# Altium schematic symbol library dungvh03-CERN_AnalogInterface.SchLib: 1053 symbols (part 3 of 12)
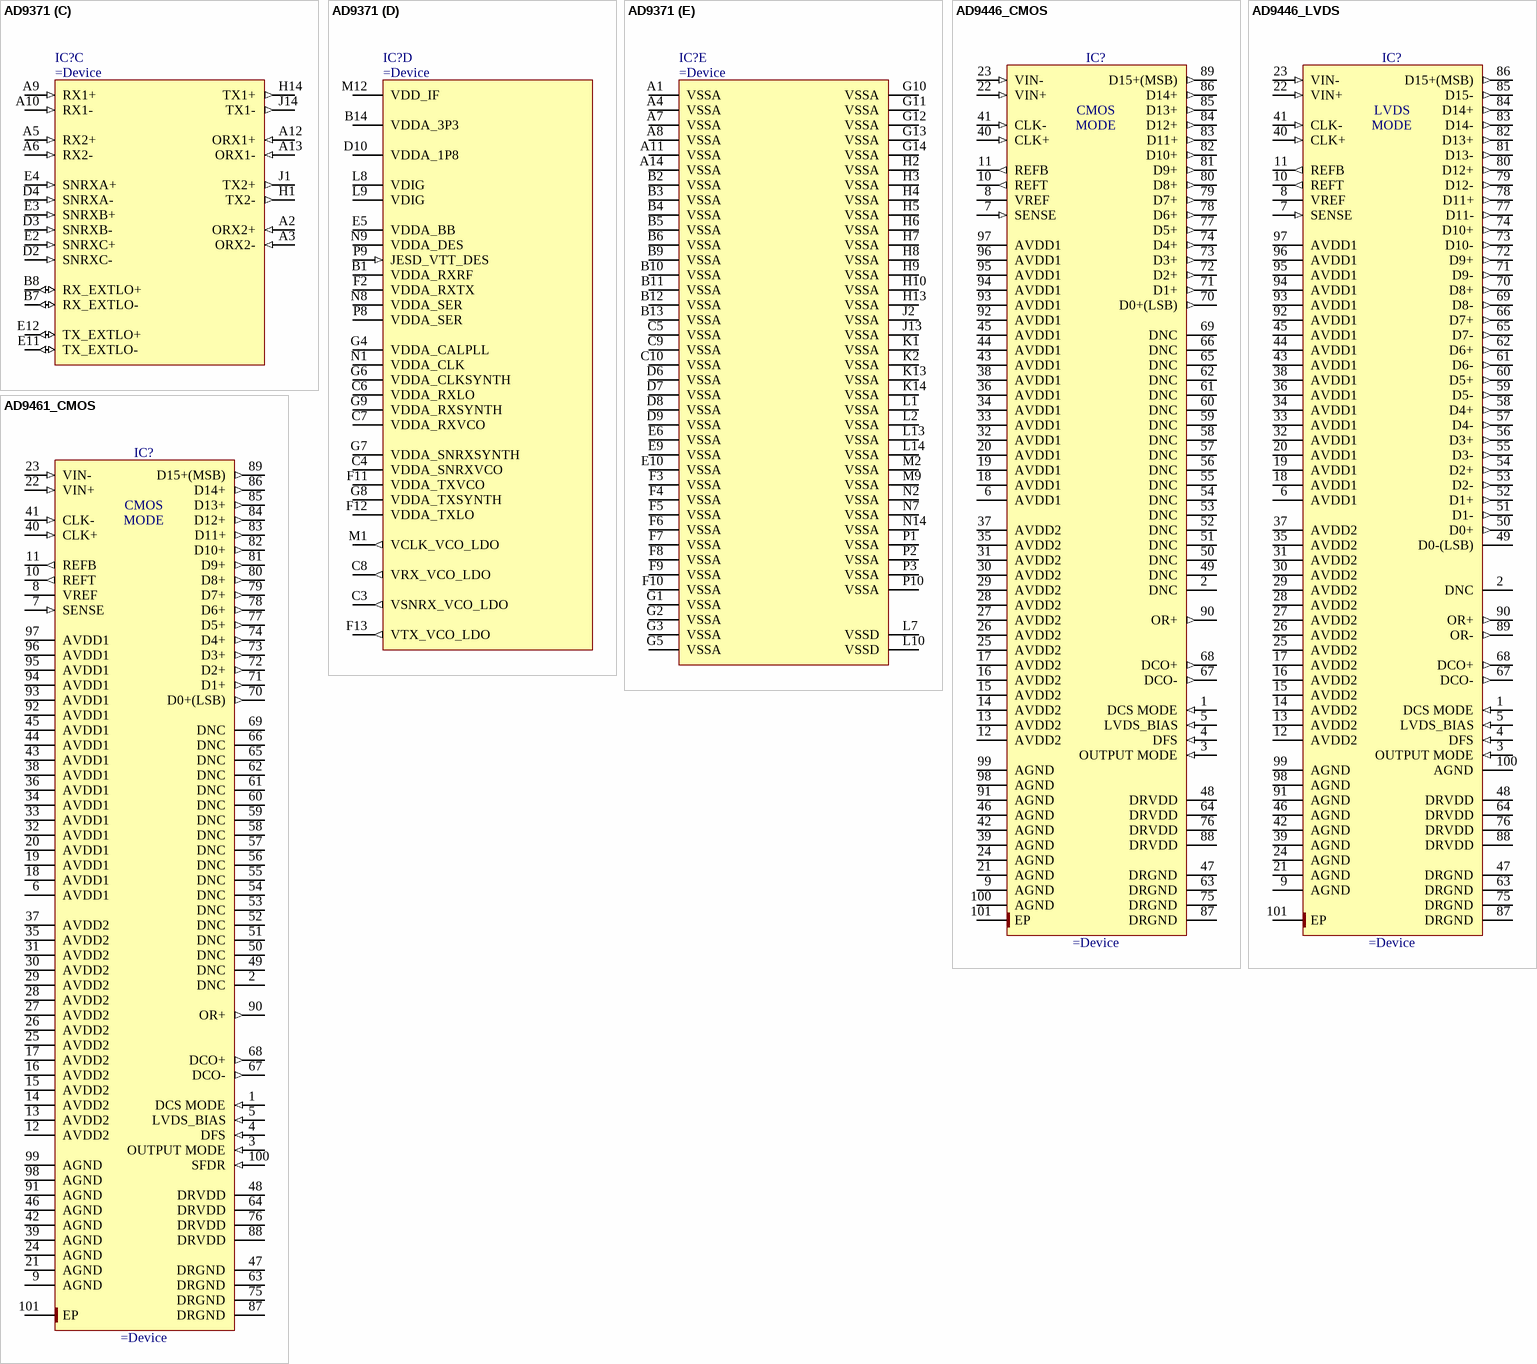
[diagram p69: symbols AD9371 to AD9461_CMOS]

## AD9446_LVDS
designator IC?
16-Bit, 80/100 MSPS ADC (LVDS Mode)
pins: 1 DCS MODE (in), 2 DNC, 3 OUTPUT MODE (in), 4 DFS (in), 5 LVDS_BIAS (in), 6 AVDD1 (power), 7 SENSE (in), 8 VREF, 9 AGND (power), 10 REFT (out), 11 REFB (out), 12 AVDD2 (power), 13 AVDD2 (power), 14 AVDD2 (power), 15 AVDD2 (power), 16 AVDD2 (power), 17 AVDD2 (power), 18 AVDD1 (power), 19 AVDD1 (power), 20 AVDD1 (power), 21 AGND (power), 22 VIN+ (in), 23 VIN- (in), 24 AGND (power), 25 AVDD2 (power), 26 AVDD2 (power), 27 AVDD2 (power), 28 AVDD2 (power), 29 AVDD2 (power), 30 AVDD2 (power), 31 AVDD2 (power), 32 AVDD1 (power), 33 AVDD1 (power), 34 AVDD1 (power), 35 AVDD2 (power), 36 AVDD1 (power), 37 AVDD2 (power), 38 AVDD1 (power), 39 AGND (power), 40 CLK+ (in), 41 CLK- (in), 42 AGND (power), 43 AVDD1 (power), 44 AVDD1 (power), 45 AVDD1 (power), 46 AGND (power), 47 DRGND (power), 48 DRVDD (power), 49 D0-(LSB) (power), 50 D0+ (out), 51 D1- (out), 52 D1+ (out), 53 D2- (out), 54 D2+ (out), 55 D3- (out), 56 D3+ (out), 57 D4- (out), 58 D4+ (out), 59 D5- (out), 60 D5+ (out), 61 D6- (out), 62 D6+ (out), 63 DRGND (power), 64 DRVDD (power), 65 D7- (out), 66 D7+ (out), 67 DCO- (out), 68 DCO+ (out), 69 D8- (out), 70 D8+ (out), 71 D9- (out), 72 D9+ (out), 73 D10- (out), 74 D10+ (out), 75 DRGND (power), 76 DRVDD (power), 77 D11- (out), 78 D11+ (out), 79 D12- (out), 80 D12+ (out), 81 D13- (out), 82 D13+ (out), 83 D14- (out), 84 D14+ (out), 85 D15- (out), 86 D15+(MSB) (out), 87 DRGND (power), 88 DRVDD (power), 89 OR- (out), 90 OR+ (out), 91 AGND (power), 92 AVDD1 (power), 93 AVDD1 (power), 94 AVDD1 (power), 95 AVDD1 (power), 96 AVDD1 (power), 97 AVDD1 (power), 98 AGND (power), 99 AGND (power), 100 AGND (power), 101 EP (power)
text: LVDS; MODE

## AD9461_CMOS
designator IC?
16-Bit, 130 MSPS IF Sampling ADC (CMOS Mode)
pins: 1 DCS MODE (in), 2 DNC, 3 OUTPUT MODE (in), 4 DFS (in), 5 LVDS_BIAS (in), 6 AVDD1 (power), 7 SENSE (in), 8 VREF, 9 AGND (power), 10 REFT (out), 11 REFB (out), 12 AVDD2 (power), 13 AVDD2 (power), 14 AVDD2 (power), 15 AVDD2 (power), 16 AVDD2 (power), 17 AVDD2 (power), 18 AVDD1 (power), 19 AVDD1 (power), 20 AVDD1 (power), 21 AGND (power), 22 VIN+ (in), 23 VIN- (in), 24 AGND (power), 25 AVDD2 (power), 26 AVDD2 (power), 27 AVDD2 (power), 28 AVDD2 (power), 29 AVDD2 (power), 30 AVDD2 (power), 31 AVDD2 (power), 32 AVDD1 (power), 33 AVDD1 (power), 34 AVDD1 (power), 35 AVDD2 (power), 36 AVDD1 (power), 37 AVDD2 (power), 38 AVDD1 (power), 39 AGND (power), 40 CLK+ (in), 41 CLK- (in), 42 AGND (power), 43 AVDD1 (power), 44 AVDD1 (power), 45 AVDD1 (power), 46 AGND (power), 47 DRGND (power), 48 DRVDD (power), 49 DNC, 50 DNC, 51 DNC, 52 DNC, 53 DNC, 54 DNC, 55 DNC, 56 DNC, 57 DNC, 58 DNC, 59 DNC, 60 DNC, 61 DNC, 62 DNC, 63 DRGND (power), 64 DRVDD (power), 65 DNC, 66 DNC, 67 DCO- (out), 68 DCO+ (out), 69 DNC, 70 D0+(LSB) (out), 71 D1+ (out), 72 D2+ (out), 73 D3+ (out), 74 D4+ (out), 75 DRGND (power), 76 DRVDD (power), 77 D5+ (out), 78 D6+ (out), 79 D7+ (out), 80 D8+ (out), 81 D9+ (out), 82 D10+ (out), 83 D11+ (out), 84 D12+ (out), 85 D13+ (out), 86 D14+ (out), 87 DRGND (power), 88 DRVDD (power), 89 D15+(MSB) (out), 90 OR+ (out), 91 AGND (power), 92 AVDD1 (power), 93 AVDD1 (power), 94 AVDD1 (power), 95 AVDD1 (power), 96 AVDD1 (power), 97 AVDD1 (power), 98 AGND (power), 99 AGND (power), 100 SFDR (in), 101 EP (power)
text: CMOS; MODE

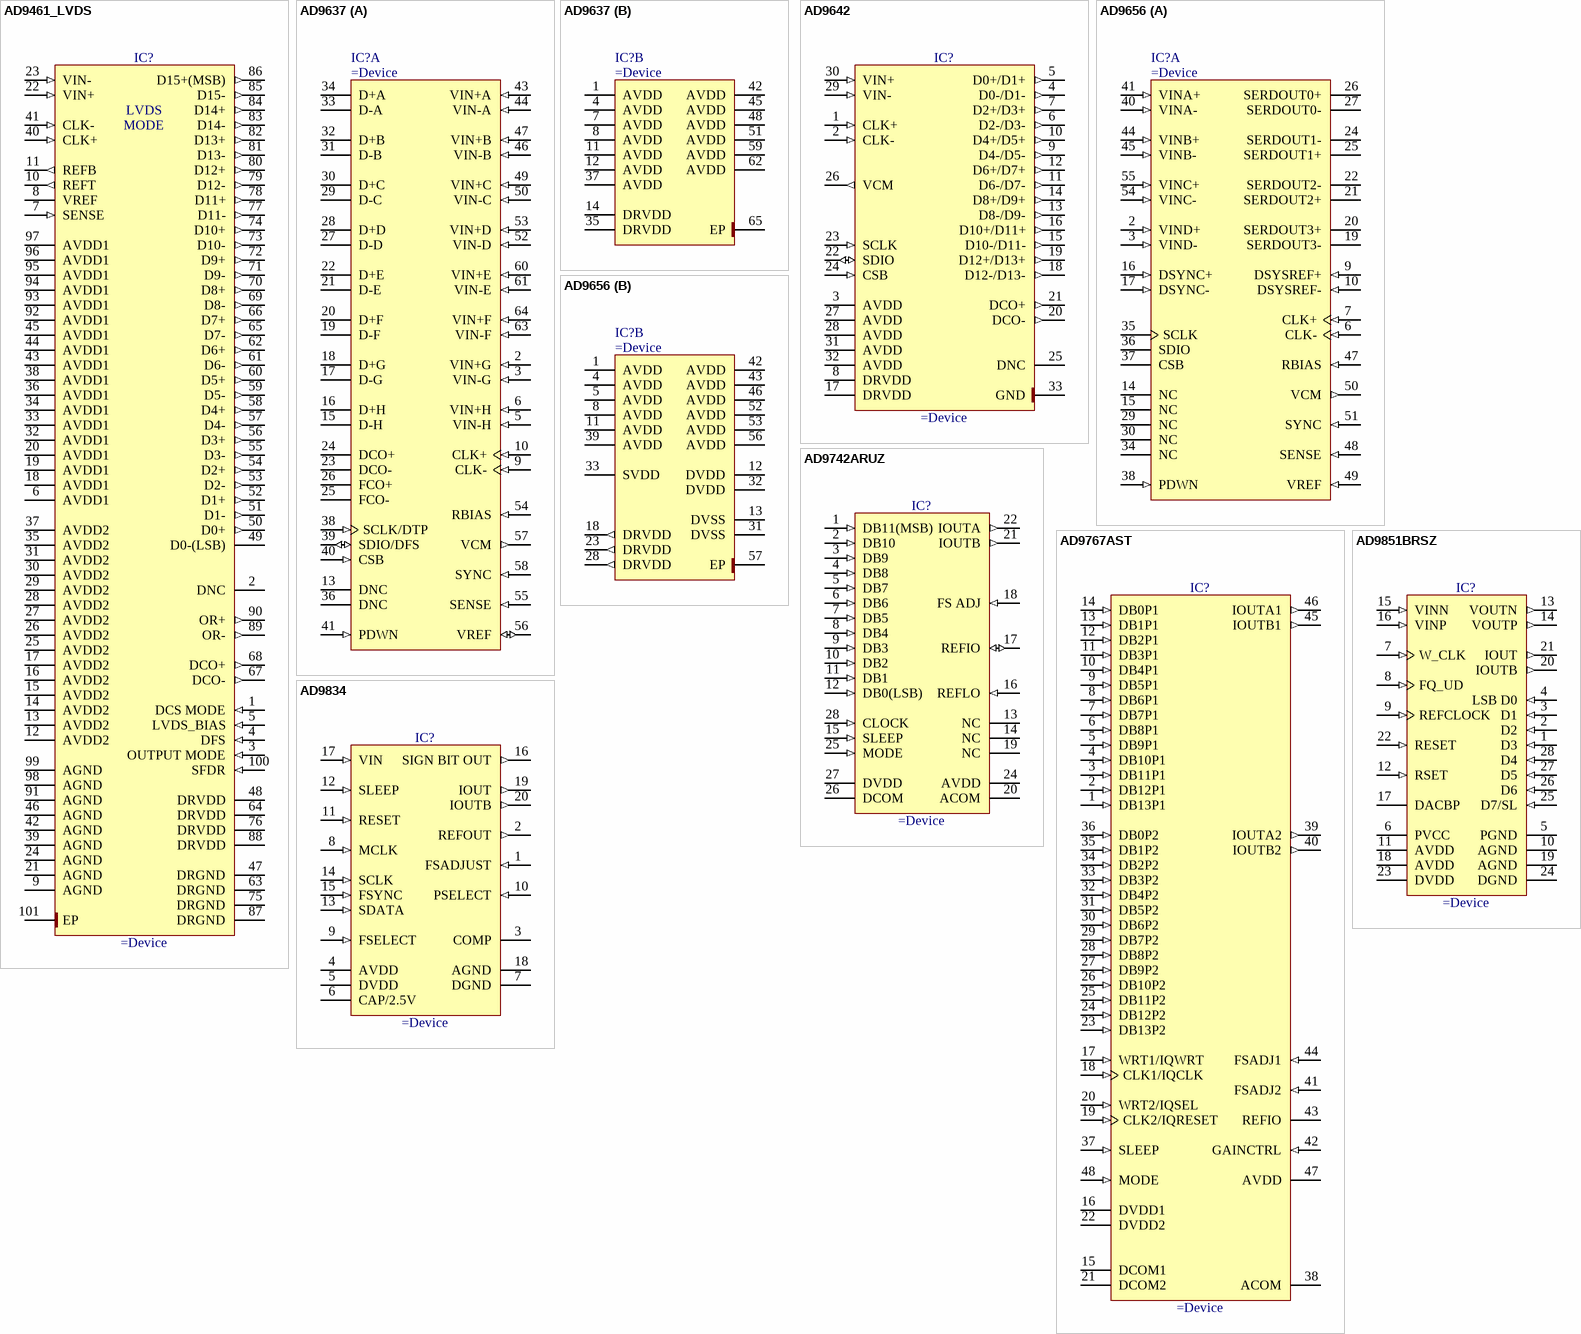
[diagram p10: symbols AD9461_LVDS to AD9851BRSZ]

## AD9461_LVDS
designator IC?
16-Bit, 130 MSPS IF Sampling ADC (LVDS Mode)
pins: 1 DCS MODE (in), 2 DNC, 3 OUTPUT MODE (in), 4 DFS (in), 5 LVDS_BIAS (in), 6 AVDD1 (power), 7 SENSE (in), 8 VREF, 9 AGND (power), 10 REFT (out), 11 REFB (out), 12 AVDD2 (power), 13 AVDD2 (power), 14 AVDD2 (power), 15 AVDD2 (power), 16 AVDD2 (power), 17 AVDD2 (power), 18 AVDD1 (power), 19 AVDD1 (power), 20 AVDD1 (power), 21 AGND (power), 22 VIN+ (in), 23 VIN- (in), 24 AGND (power), 25 AVDD2 (power), 26 AVDD2 (power), 27 AVDD2 (power), 28 AVDD2 (power), 29 AVDD2 (power), 30 AVDD2 (power), 31 AVDD2 (power), 32 AVDD1 (power), 33 AVDD1 (power), 34 AVDD1 (power), 35 AVDD2 (power), 36 AVDD1 (power), 37 AVDD2 (power), 38 AVDD1 (power), 39 AGND (power), 40 CLK+ (in), 41 CLK- (in), 42 AGND (power), 43 AVDD1 (power), 44 AVDD1 (power), 45 AVDD1 (power), 46 AGND (power), 47 DRGND (power), 48 DRVDD (power), 49 D0-(LSB) (power), 50 D0+ (out), 51 D1- (out), 52 D1+ (out), 53 D2- (out), 54 D2+ (out), 55 D3- (out), 56 D3+ (out), 57 D4- (out), 58 D4+ (out), 59 D5- (out), 60 D5+ (out), 61 D6- (out), 62 D6+ (out), 63 DRGND (power), 64 DRVDD (power), 65 D7- (out), 66 D7+ (out), 67 DCO- (out), 68 DCO+ (out), 69 D8- (out), 70 D8+ (out), 71 D9- (out), 72 D9+ (out), 73 D10- (out), 74 D10+ (out), 75 DRGND (power), 76 DRVDD (power), 77 D11- (out), 78 D11+ (out), 79 D12- (out), 80 D12+ (out), 81 D13- (out), 82 D13+ (out), 83 D14- (out), 84 D14+ (out), 85 D15- (out), 86 D15+(MSB) (out), 87 DRGND (power), 88 DRVDD (power), 89 OR- (out), 90 OR+ (out), 91 AGND (power), 92 AVDD1 (power), 93 AVDD1 (power), 94 AVDD1 (power), 95 AVDD1 (power), 96 AVDD1 (power), 97 AVDD1 (power), 98 AGND (power), 99 AGND (power), 100 SFDR (in), 101 EP (power)
text: LVDS; MODE

## AD9637
designator IC?
Octal, 12-Bit, 40/80MSPS, Serial LVDS, 1.8V Analog-to-Digital Converter
part A pins: 2 VIN+G (in) "ADC G Analog Input True.", 3 VIN-G (in) "ADC G Analog Input Complement.", 5 VIN-H (in) "ADC H Analog Input Complement.", 6 VIN+H (in) "ADC H Analog Input True.", 9 CLK- (in) "Input Clock Complement.", 10 CLK+ (in) "Input Clock True.", 13 DNC "Do Not Connect. Do not connect to this pin.", 15 D-H (hiz) "ADC H Digital Output Complement.", 16 D+H (hiz) "ADC H Digital Output True.", 17 D-G (hiz) "ADC G Digital Output Complement.", 18 D+G (hiz) "ADC G Digital Output True.", 19 D-F (hiz) "ADC F Digital Output Complement.", 20 D+F (hiz) "ADC F Digital Output True.", 21 D-E (hiz) "ADC E Digital Output Complement.", 22 D+E (hiz) "ADC E Digital Output True.", 23 DCO- (hiz) "Data Clock Digital Output Complement.", 24 DCO+ (hiz) "Data Clock Digital Output True.", 25 FCO- (hiz) "Frame Clock Digital Output Complement.", 26 FCO+ (hiz) "Frame Clock Digital Output True.", 27 D-D (hiz) "ADC D Digital Output Complement.", 28 D+D (hiz) "ADC D Digital Output True.", 29 D-C (hiz) "ADC C Digital Output Complement.", 30 D+C (hiz) "ADC C Digital Output True.", 31 D-B (hiz) "ADC B Digital Output Complement.", 32 D+B (hiz) "ADC B Digital Output True.", 33 D-A (hiz) "ADC A Digital Output Complement.", 34 D+A (hiz) "ADC A Digital Output True.", 36 DNC "Do Not Connect. Do not connect to this pin.", 38 SCLK/DTP (in) "Serial Clock (SCLK)/Digital Test Pattern (DTP).", 39 SDIO/DFS (io) "Serial Data Input/Output (SDIO)/Data Format Select (DFS).", 40 CSB (in) "Chip Select Bar.", 41 PDWN (in) "Power-Down.", 43 VIN+A (in) "ADC A Analog Input True.", 44 VIN-A (in) "ADC A Analog Input Complement.", 46 VIN-B (in) "ADC B Analog Input Complement.", 47 VIN+B (in) "ADC B Analog Input True.", 49 VIN+C (in) "ADC C Analog Input True.", 50 VIN-C (in) "ADC C Analog Input Complement.", 52 VIN-D (in) "ADC D Analog Input Complement.", 53 VIN+D (in) "ADC D Analog Input True.", 54 RBIAS (in) "Sets analog current bias. Connect to 10 kO (1% tolerance) resistor to ground.", 55 SENSE (in) "Reference Mode Selection.", 56 VREF (io) "Voltage Reference Input/Output.", 57 VCM (out) "Analog Output Voltage at Midsupply. Sets common mode of the analog inputs.", 58 SYNC (in) "Digital Input. SYNC input to clock divider. 30 kO internal pull-down.", 60 VIN+E (in) "ADC E Analog Input True.", 61 VIN-E (in) "ADC E Analog Input Complement.", 63 VIN-F (in) "ADC F Analog Input Complement.", 64 VIN+F (in) "ADC F Analog Input True."
part B pins: 1 AVDD (power) "1.8 V Analog Supply.", 4 AVDD (power) "1.8 V Analog Supply.", 7 AVDD (power) "1.8 V Analog Supply.", 8 AVDD (power) "1.8 V Analog Supply.", 11 AVDD (power) "1.8 V Analog Supply.", 12 AVDD (power) "1.8 V Analog Supply.", 14 DRVDD (power) "1.8 V Digital Output Driver Supply.", 35 DRVDD (power) "1.8 V Digital Output Driver Supply.", 37 AVDD (power) "1.8 V Analog Supply.", 42 AVDD (power) "1.8 V Analog Supply.", 45 AVDD (power) "1.8 V Analog Supply.", 48 AVDD (power) "1.8 V Analog Supply.", 51 AVDD (power) "1.8 V Analog Supply.", 59 AVDD (power) "1.8 V Analog Supply.", 62 AVDD (power) "1.8 V Analog Supply.", 65 EP (power) "Analog Ground, Exposed Pad. The exposed thermal pad on the bottom of the package provides the analog ground for the part. This exposed pad must be connected to analog ground for proper operation."

## AD9642
designator IC?
Single, 14-Bit, 170/210/250 MSPS, LVDS Interface, 1.8 V Analog-to-Digital Converter
pins: 1 CLK+ (in), 2 CLK- (in), 3 AVDD (power), 4 D0-/D1- (out), 5 D0+/D1+ (out), 6 D2-/D3- (out), 7 D2+/D3+ (out), 8 DRVDD (power), 9 D4-/D5- (out), 10 D4+/D5+ (out), 11 D6-/D7- (out), 12 D6+/D7+ (out), 13 D8-/D9- (out), 14 D8+/D9+ (out), 15 D10-/D11- (out), 16 D10+/D11+ (out), 17 DRVDD (power), 18 D12-/D13- (out), 19 D12+/D13+ (out), 20 DCO- (out), 21 DCO+ (out), 22 SDIO (io), 23 SCLK (in), 24 CSB (in), 25 DNC, 26 VCM (out), 27 AVDD (power), 28 AVDD (power), 29 VIN- (in), 30 VIN+ (in), 31 AVDD (power), 32 AVDD (power), 33 GND (power)

## AD9656
designator IC?
Quad, 16-Bit, 125 MSPS, JESD204B, 1.8V Analog-to-Digital Converter
part A pins: 2 VIND+ (in), 3 VIND- (in), 6 CLK- (in), 7 CLK+ (in), 9 DSYSREF+ (in), 10 DSYSREF- (in), 14 NC (power), 15 NC (hiz), 16 DSYNC+ (in), 17 DSYNC- (in), 19 SERDOUT3- (hiz), 20 SERDOUT3+ (hiz), 21 SERDOUT2+ (hiz), 22 SERDOUT2- (hiz), 24 SERDOUT1- (hiz), 25 SERDOUT1+ (hiz), 26 SERDOUT0+ (hiz), 27 SERDOUT0- (hiz), 29 NC (hiz), 30 NC (hiz), 34 NC (hiz), 35 SCLK (power), 36 SDIO, 37 CSB (power), 38 PDWN (in), 40 VINA- (in), 41 VINA+ (in), 44 VINB+ (in), 45 VINB- (in), 47 RBIAS (in), 48 SENSE (in), 49 VREF (in), 50 VCM (out), 51 SYNC (in), 54 VINC- (in), 55 VINC+ (in)
part B pins: 1 AVDD (power), 4 AVDD (power), 5 AVDD (power), 8 AVDD (power), 11 AVDD (power), 12 DVDD (power), 13 DVSS, 18 DRVDD (out), 23 DRVDD (out), 28 DRVDD (out), 31 DVSS (hiz), 32 DVDD (hiz), 33 SVDD (hiz), 39 AVDD (power), 42 AVDD (power), 43 AVDD (power), 46 AVDD (power), 52 AVDD (power), 53 AVDD (power), 56 AVDD (power), 57 EP (power)

## AD9742ARUZ
designator IC?
12-Bit, 210 MSPS TxDAC® D/A Converter
pins: 1 DB11(MSB) (in), 2 DB10 (in), 3 DB9 (in), 4 DB8 (in), 5 DB7 (in), 6 DB6 (in), 7 DB5 (in), 8 DB4 (in), 9 DB3 (in), 10 DB2 (in), 11 DB1 (in), 12 DB0(LSB) (in), 13 NC, 14 NC, 15 SLEEP (in), 16 REFLO (in), 17 REFIO (io), 18 FS ADJ (in), 19 NC, 20 ACOM (power), 21 IOUTB (out), 22 IOUTA (out), 24 AVDD (power), 25 MODE (in), 26 DCOM (power), 27 DVDD (power), 28 CLOCK (in)

## AD9767AST
designator IC?
Dual 14-Bit, 125 MSPS Dual TxDAC+ Digital-to-Analog Converter
pins: 1 DB13P1 (in) "Data Bit Pin (Port 1)", 2 DB12P1 (in) "Data Bit Pin (Port 1)", 3 DB11P1 (in) "Data Bit Pin (Port 1)", 4 DB10P1 (in) "Data Bit Pin (Port 1)", 5 DB9P1 (in) "Data Bit Pin (Port 1)", 6 DB8P1 (in) "Data Bit Pin (Port 1)", 7 DB7P1 (in) "Data Bit Pin (Port 1)", 8 DB6P1 (in) "Data Bit Pin (Port 1)", 9 DB5P1 (in) "Data Bit Pin (Port 1)", 10 DB4P1 (in) "Data Bit Pin (Port 1)", 11 DB3P1 (in) "Data Bit Pin (Port 1)", 12 DB2P1 (in) "Data Bit Pin (Port 1)", 13 DB1P1 (in) "Data Bit Pin (Port 1)", 14 DB0P1 (in) "Data Bit Pin (Port 1)", 15 DCOM1 (power) "Digital Common", 16 DVDD1 (power) "Digital Supply Voltage", 17 WRT1/IQWRT (in) "Input Write Signal for PORT 1 (IQWRT in Interleaving Mode)", 18 CLK1/IQCLK (in) "Clock Input for DAC1 (IQCLK in Interleaving Mode)", 19 CLK2/IQRESET (in) "Clock Input for DAC2 (IQRESET in Interleaving Mode)", 20 WRT2/IQSEL (in) "Input Write Signal for PORT 2 (IQSEL in Interleaving Mode)", 21 DCOM2 (power) "Digital Common", 22 DVDD2 (power) "Digital Supply Voltage", 23 DB13P2 (in) "Data Bit Pin (Port 2)", 24 DB12P2 (in) "Data Bit Pin (Port 2)", 25 DB11P2 (in) "Data Bit Pin (Port 2)", 26 DB10P2 (in) "Data Bit Pin (Port 2)", 27 DB9P2 (in) "Data Bit Pin (Port 2)", 28 DB8P2 (in) "Data Bit Pin (Port 2)", 29 DB7P2 (in) "Data Bit Pin (Port 2)", 30 DB6P2 (in) "Data Bit Pin (Port 2)", 31 DB5P2 (in) "Data Bit Pin (Port 2)", 32 DB4P2 (in) "Data Bit Pin (Port 2)", 33 DB3P2 (in) "Data Bit Pin (Port 2)", 34 DB2P2 (in) "Data Bit Pin (Port 2)", 35 DB1P2 (in) "Data Bit Pin (Port 2)", 36 DB0P2 (in) "Data Bit Pin (Port 2)", 37 SLEEP (in) "Power-Down Control Input", 38 ACOM (power) "Analog Common", 39 IOUTA2 (out) "Port 2 Differential DAC Current Output", 40 IOUTB2 (out) "Port 2 Differential DAC Current Output", 41 FSADJ2 (in) "Full-Scale Current Output Adjust for DAC2", 42 GAINCTRL (in) "Master/Slave Resistor Control Mode", 43 REFIO "Reference Input/Output", 44 FSADJ1 (in) "Full-Scale Current Output Adjust for DAC1", 45 IOUTB1 (out) "Port 1 Differential DAC Current Output", 46 IOUTA1 (out) "Port 1 Differential DAC Current Output", 47 AVDD (power) "Analog Supply Voltage", 48 MODE (in) "Mode Select (1 = dual port, 0 = interleaved)"

## AD9834
designator IC?
20mW Power, 2.3V to 5.5V, 75MHz Complete DDS
pins: 1 FSADJUST (in) "Full-Scale Adjust Control. A resistor (RSET) is connected between this pin and AGND. This determines the magnitude of the full-scale DAC current. [see datasheet]", 2 REFOUT (out) "Voltage Reference Output. The AD9834 has an internal 1.20 V reference that is made available at this pin.", 3 COMP "DAC Bias Pin. This pin is used for decoupling the DAC bias voltage.", 4 AVDD (power) "Positive Power Supply for the Analog Section. AVDD can have a value from 2.3 V to 5.5 V. A 0.1 uF decoupling capacitor should be connected between AVDD and AGND.", 5 DVDD (power) "Positive Power Supply for the Digital Section. DVDD can have a value from 2.3 V to 5.5 V. A 0.1 uF decoupling capacitor should be connected between DVDD and DGND.", 6 CAP/2.5V (power) "The digital circuitry operates from a 2.5 V power supply. This 2.5 V is generated from DVDD using an on-board regulator (when DVDD exceeds 2.7 V). [see datasheet]", 7 DGND (power) "Digital Ground.", 8 MCLK (in) "Digital Clock Input. DDS output frequencies are expressed as a binary fraction of the frequency of MCLK. The output frequency accuracy and phase noise are determined by this clock.", 9 FSELECT (in) "Frequency Select Input. FSELECT controls which frequency register, FREQ0 or FREQ1, is used in the phase accumulator. The frequency register to be used can be selected using Pin FSELECT or Bit FSEL. [see datasheet]", 10 PSELECT (in) "Phase Select Input. PSELECT controls which phase register, PHASE0 or PHASE1, is added to the phase accumulator output. The phase register to be used can be selected using Pin PSELECT or Bit PSEL. [see datasheet]", 11 RESET (in) "Active High Digital Input. RESET resets appropriate internal registers to zero; this corresponds to an analog output of midscale. RESET does not affect any of the addressable registers.", 12 SLEEP (in) "Active High Digital Input. When this pin is high, the DAC is powered down. This pin has the same function as Control Bit SLEEP12.", 13 SDATA (in) "Serial Data Input. The 16-bit serial data-word is applied to this input.", 14 SCLK (in) "Serial Clock Input. Data is clocked into the AD9834 on each falling SCLK edge.", 15 FSYNC (in) "Active Low Control Input. This is the frame synchronization signal for the input data. When FSYNC is taken low, the internal logic is informed that a new word is being loaded into the device.", 16 SIGN BIT OUT (out) "Logic Output. The comparator output is available on this pin or, alternatively, the MSB from the NCO can be output on this pin. Setting Bit OPBITEN in the control register to 1 enables this output pin. [see datasheet]", 17 VIN (in) "Input to Comparator. The comparator can be used to generate a square wave from the sinusoidal DAC output. The DAC output should be filtered appropriately before being applied to the comparator to improve jitter. [see datasheet]", 18 AGND (power) "Analog Ground.", 19 IOUT (out) "Current Output. This is a high impedance current source. A load resistor of nominally 200  ohm should be connected between IOUT and AGND. [see datasheet]", 20 IOUTB (out) "Current Output. This is a high impedance current source. A load resistor of nominally 200  ohm should be connected between IOUT and AGND. [see datasheet]"

## AD9851BRSZ
designator IC?
CMOS 180MHz DDS/DAC Synthesizer
pins: 1 D3 (in) "8-Bit Data Input. The data port for loading the 32-bit frequency and 8-bit phase/control words. D7 = MSB;D0 = LSB. D7, Pin 25, also serves as the input pin for 40-bit serial data word.", 2 D2 (in) "8-Bit Data Input. The data port for loading the 32-bit frequency and 8-bit phase/control words. D7 = MSB;D0 = LSB. D7, Pin 25, also serves as the input pin for 40-bit serial data word.", 3 D1 (in) "8-Bit Data Input. The data port for loading the 32-bit frequency and 8-bit phase/control words. D7 = MSB;D0 = LSB. D7, Pin 25, also serves as the input pin for 40-bit serial data word.", 4 LSB D0 (in) "8-Bit Data Input. The data port for loading the 32-bit frequency and 8-bit phase/control words. D7 = MSB;D0 = LSB. D7, Pin 25, also serves as the input pin for 40-bit serial data word.", 5 PGND (power) "6X REFCLK Multiplier Ground Connection.", 6 PVCC (power) "6X REFCLK Multiplier Positive Supply Voltage Pin.", 7 W_CLK (in) "Word Load Clock. Rising edge loads the parallel or serial frequency/phase/control words asynchronously into the 40-bit input register.", 8 FQ_UD (in) "Frequency Update. A rising edge asynchronously transfers the contents of the 40-bit input register to be acted upon by the DDS core. [see datasheet]", 9 REFCLOCK (in) "Reference Clock Input. CMOS/TTL-level pulse train, direct or via the 6X REFCLK Multiplier. In direct mode, this is also the SYSTEM CLOCK. [see datasheet]", 10 AGND (power) "Analog Ground. The ground return for the analog circuitry (DAC and Comparator).", 11 AVDD (power) "Positive supply voltage for analog circuitry (DAC and Comparator, Pin 18) and bandgap volt age ref er ence,Pin 11.", 12 RSET (in) "The DAC’s external RSET connection—nominally a 3.92 kohms resistor to ground for 10 mA out. This sets the DAC full-scale output current available from IOUT and IOUTB. RSET = 39.93/IOUT.", 13 VOUTN (out) "Voltage Output Negative. The comparator’s complementary CMOS logic level output.", 14 VOUTP (out) "Voltage Output Positive. The comparator’s true CMOS logic level output.", 15 VINN (in) "Voltage Input Negative. The comparator’s inverting input.", 16 VINP (in) "Voltage Input Positive. The comparator’s noninverting input.", 17 DACBP "DAC Bypass Connection. This is the DAC voltage reference bypass connection normally NC (NO CONNECT) for optimum SFDR performance.", 18 AVDD (power) "Positive supply voltage for analog circuitry (DAC and Comparator, Pin 18) and bandgap volt age ref er ence,Pin 11.", 19 AGND (power) "Analog Ground. The ground return for the analog circuitry (DAC and Comparator).", 20 IOUTB (out) "The complementary DAC output with same characteristics as IOUT except that IOUTB = (full-scale output–IOUT). Output load should equal that of IOUT for best SFDR performance.", 21 IOUT (out) "The true output of the balanced DAC. Current is sourcing and requires current-to-voltage conversion, usually a resistor or transformer referenced to GND. IOUT = (full-scale output–IOUTB).", 22 RESET (in) "Master Reset pin; active high; clears DDS accumulator and phase offset register to achieve 0 Hz and 0 degrees output phase. Sets programming to parallel mode and disengages the 6? REFCLK Multiplier. [see datasheet]", 23 DVDD (power) "Positive supply voltage pin for digital circuitry.", 24 DGND (power) "Digital Ground. The ground return pin for the digital circuitry.", 25 D7/SL (in) "8-Bit Data Input. The data port for loading the 32-bit frequency and 8-bit phase/control words. D7 = MSB;D0 = LSB. D7, Pin 25, also serves as the input pin for 40-bit serial data word.", 26 D6 (in) "8-Bit Data Input. The data port for loading the 32-bit frequency and 8-bit phase/control words. D7 = MSB;D0 = LSB. D7, Pin 25, also serves as the input pin for 40-bit serial data word.", 27 D5 (in) "8-Bit Data Input. The data port for loading the 32-bit frequency and 8-bit phase/control words. D7 = MSB;D0 = LSB. D7, Pin 25, also serves as the input pin for 40-bit serial data word.", 28 D4 (in) "8-Bit Data Input. The data port for loading the 32-bit frequency and 8-bit phase/control words. D7 = MSB;D0 = LSB. D7, Pin 25, also serves as the input pin for 40-bit serial data word."

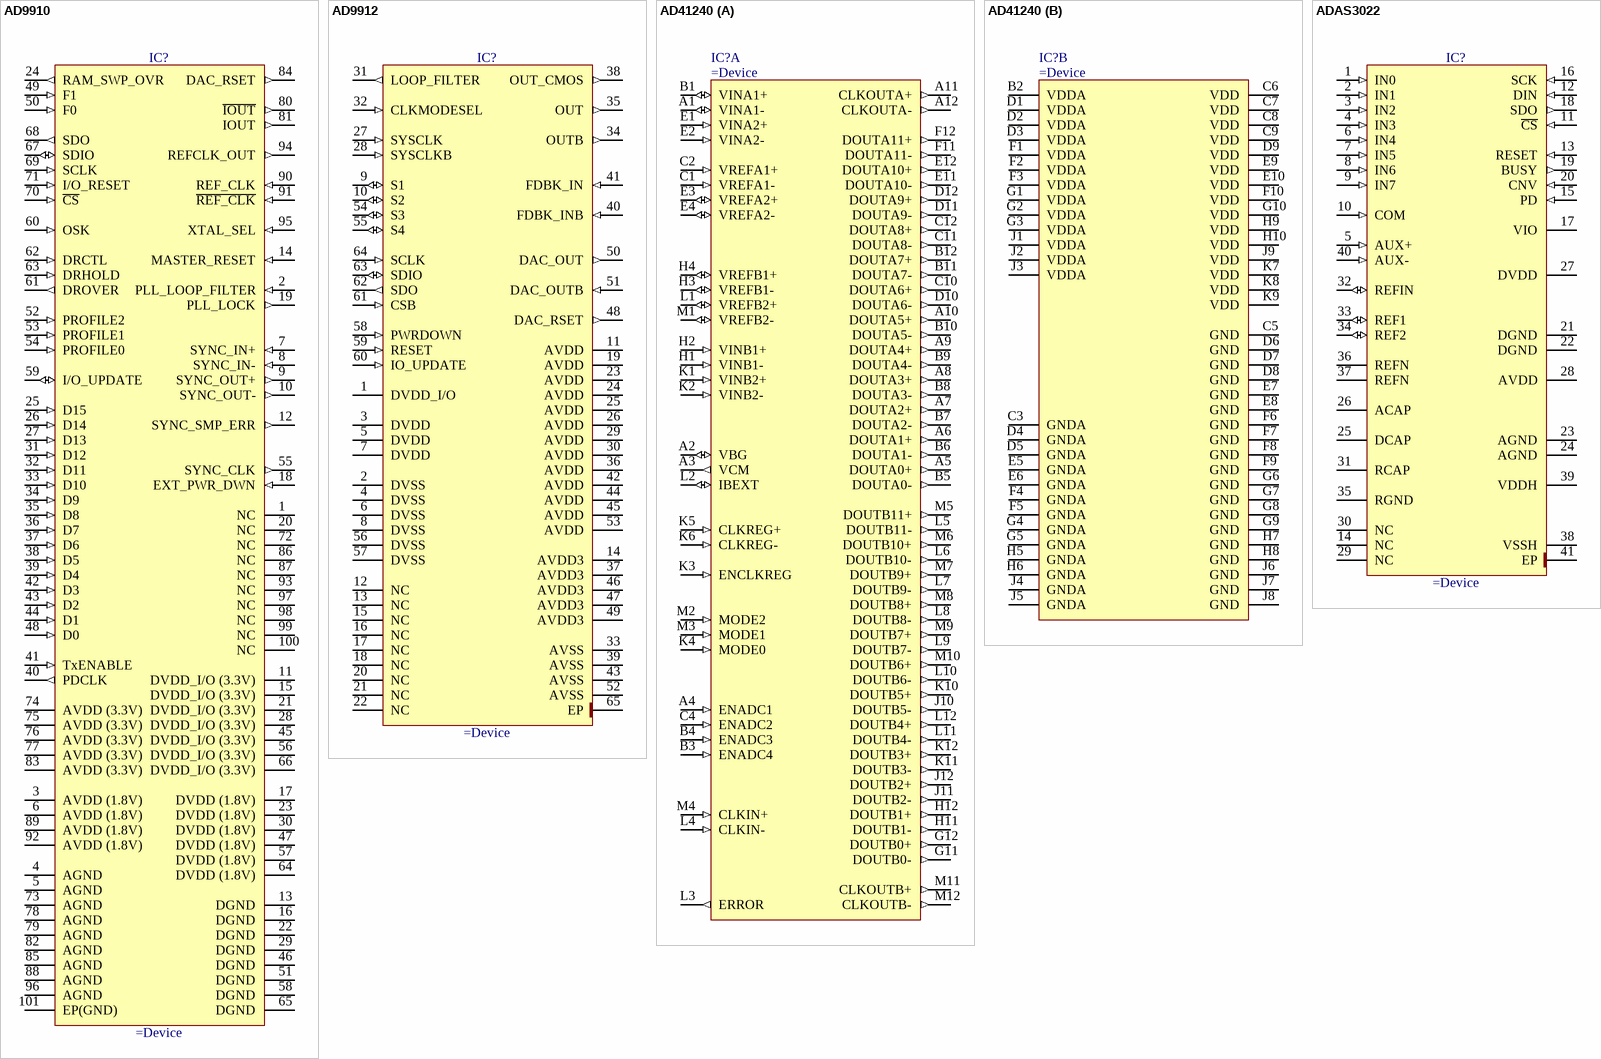
[diagram p11: symbols AD9910 to ADAS3022]

## AD9910
designator IC?
1 GSPS, 14-Bit, 3.3 V CMOS Direct Digital Synthesizer
pins: 1 NC, 2 PLL_LOOP_FILTER (in), 3 AVDD (1.8V) (power), 4 AGND (power), 5 AGND (power), 6 AVDD (1.8V) (power), 7 SYNC_IN+ (in), 8 SYNC_IN- (in), 9 SYNC_OUT+ (out), 10 SYNC_OUT- (out), 11 DVDD_I/O (3.3V) (power), 12 SYNC_SMP_ERR (out), 13 DGND (power), 14 MASTER_RESET (in), 15 DVDD_I/O (3.3V) (power), 16 DGND (power), 17 DVDD (1.8V) (power), 18 EXT_PWR_DWN (in), 19 PLL_LOCK (out), 20 NC, 21 DVDD_I/O (3.3V) (power), 22 DGND (power), 23 DVDD (1.8V) (power), 24 RAM_SWP_OVR (out), 25 D15 (in), 26 D14 (in), 27 D13 (in), 28 DVDD_I/O (3.3V) (power), 29 DGND (power), 30 DVDD (1.8V) (power), 31 D12 (in), 32 D11 (in), 33 D10 (in), 34 D9 (in), 35 D8 (in), 36 D7 (in), 37 D6 (in), 38 D5 (in), 39 D4 (in), 40 PDCLK (out), 41 TxENABLE (in), 42 D3 (in), 43 D2 (in), 44 D1 (in), 45 DVDD_I/O (3.3V) (power), 46 DGND (power), 47 DVDD (1.8V) (power), 48 D0 (in), 49 F1 (in), 50 F0 (in), 51 DGND (power), 52 PROFILE2 (in), 53 PROFILE1 (in), 54 PROFILE0 (in), 55 SYNC_CLK (out), 56 DVDD_I/O (3.3V) (power), 57 DVDD (1.8V) (power), 58 DGND (power), 59 I/O_UPDATE (io), 60 OSK (in), 61 DROVER (out), 62 DRCTL (in), 63 DRHOLD (in), 64 DVDD (1.8V) (power), 65 DGND (power), 66 DVDD_I/O (3.3V) (power), 67 SDIO (io), 68 SDO (out), 69 SCLK (in), 70 ~{CS} (in), 71 I/O_RESET (in), 72 NC, 73 AGND (power), 74 AVDD (3.3V) (power), 75 AVDD (3.3V) (power), 76 AVDD (3.3V) (power), 77 AVDD (3.3V) (power), 78 AGND (power), 79 AGND (power), 80 ~{IOUT} (out), 81 IOUT (out), 82 AGND (power), 83 AVDD (3.3V) (power), 84 DAC_RSET (out), 85 AGND (power), 86 NC, 87 NC, 88 AGND (power), 89 AVDD (1.8V) (power), 90 REF_CLK (in), 91 ~{REF_CLK} (in), 92 AVDD (1.8V) (power), 93 NC, 94 REFCLK_OUT (out), 95 XTAL_SEL (in), 96 AGND (power), 97 NC, 98 NC, 99 NC, 100 NC, 101 EP(GND) (power)

## AD9912
designator IC?
1 GSPS Direct Digital Synthetizer with 14-Bit DAC
pins: 1 DVDD_I/O (power), 2 DVSS (power), 3 DVDD (power), 4 DVSS (power), 5 DVDD (power), 6 DVSS (power), 7 DVDD (power), 8 DVSS (power), 9 S1 (io), 10 S2 (io), 11 AVDD (power), 12 NC, 13 NC, 14 AVDD3 (power), 15 NC, 16 NC, 17 NC, 18 NC, 19 AVDD (power), 20 NC, 21 NC, 22 NC, 23 AVDD (power), 24 AVDD (power), 25 AVDD (power), 26 AVDD (power), 27 SYSCLK (in), 28 SYSCLKB (in), 29 AVDD (power), 30 AVDD (power), 31 LOOP_FILTER (out), 32 CLKMODESEL (in), 33 AVSS (power), 34 OUTB (out), 35 OUT (out), 36 AVDD (power), 37 AVDD3 (power), 38 OUT_CMOS (out), 39 AVSS (power), 40 FDBK_INB (in), 41 FDBK_IN (in), 42 AVDD (power), 43 AVSS (power), 44 AVDD (power), 45 AVDD (power), 46 AVDD3 (power), 47 AVDD3 (power), 48 DAC_RSET (out), 49 AVDD3 (power), 50 DAC_OUT (out), 51 DAC_OUTB (in), 52 AVSS (power), 53 AVDD (power), 54 S3 (io), 55 S4 (io), 56 DVSS (power), 57 DVSS (power), 58 PWRDOWN (in), 59 RESET (in), 60 IO_UPDATE (in), 61 CSB (in), 62 SDO (out), 63 SDIO (io), 64 SCLK (in), 65 EP (power)

## AD41240
designator IC?
A CMOS Low Power, Quad Channel, 12 Bit, 40MS/S Pipelined ADC for Applications in Particle Physics Calorimetry
part A pins: A1 VINA1- (io), A2 VBG (io), A3 VCM (out), A4 ENADC1 (in), A5 DOUTA0+ (out), A6 DOUTA1+ (out), A7 DOUTA2+ (out), A8 DOUTA3+ (out), A9 DOUTA4+ (out), A10 DOUTA5+ (out), A11 CLKOUTA+ (out), A12 CLKOUTA- (out), B1 VINA1+ (io), B3 ENADC4 (in), B4 ENADC3 (in), B5 DOUTA0- (out), B6 DOUTA1- (out), B7 DOUTA2- (out), B8 DOUTA3- (out), B9 DOUTA4- (out), B10 DOUTA5- (out), B11 DOUTA7- (out), B12 DOUTA7+ (out), C1 VREFA1- (in), C2 VREFA1+ (in), C4 ENADC2 (in), C10 DOUTA6+ (out), C11 DOUTA8- (out), C12 DOUTA8+ (out), D10 DOUTA6- (out), D11 DOUTA9- (out), D12 DOUTA9+ (out), E1 VINA2+ (in), E2 VINA2- (in), E3 VREFA2+ (io), E4 VREFA2- (io), E11 DOUTA10- (out), E12 DOUTA10+ (out), F11 DOUTA11- (out), F12 DOUTA11+ (out), G11 DOUTB0- (out), G12 DOUTB0+ (out), H1 VINB1- (in), H2 VINB1+ (in), H3 VREFB1- (io), H4 VREFB1+ (io), H11 DOUTB1- (out), H12 DOUTB1+ (out), J10 DOUTB5- (out), J11 DOUTB2- (out), J12 DOUTB2+ (out), K1 VINB2+ (in), K2 VINB2- (in), K3 ENCLKREG (in), K4 MODE0 (in), K5 CLKREG+ (in), K6 CLKREG- (in), K10 DOUTB5+ (out), K11 DOUTB3- (out), K12 DOUTB3+ (out), L1 VREFB2+ (io), L2 IBEXT (io), L3 ERROR (out), L4 CLKIN- (in), L5 DOUTB11- (out), L6 DOUTB10- (out), L7 DOUTB9- (out), L8 DOUTB8- (out), L9 DOUTB7- (out), L10 DOUTB6- (out), L11 DOUTB4- (out), L12 DOUTB4+ (out), M1 VREFB2- (io), M2 MODE2 (in), M3 MODE1 (in), M4 CLKIN+ (in), M5 DOUTB11+ (out), M6 DOUTB10+ (out), M7 DOUTB9+ (out), M8 DOUTB8+ (out), M9 DOUTB7+ (out), M10 DOUTB6+ (out), M11 CLKOUTB+ (out), M12 CLKOUTB- (out)
part B pins: B2 VDDA (power), C3 GNDA (power), C5 GND (power), C6 VDD (power), C7 VDD (power), C8 VDD (power), C9 VDD (power), D1 VDDA (power), D2 VDDA (power), D3 VDDA (power), D4 GNDA (power), D5 GNDA (power), D6 GND (power), D7 GND (power), D8 GND (power), D9 VDD (power), E5 GNDA (power), E6 GNDA (power), E7 GND (power), E8 GND (power), E9 VDD (power), E10 VDD (power), F1 VDDA (power), F2 VDDA (power), F3 VDDA (power), F4 GNDA (power), F5 GNDA (power), F6 GND (power), F7 GND (power), F8 GND (power), F9 GND (power), F10 VDD (power), G1 VDDA (power), G2 VDDA (power), G3 VDDA (power), G4 GNDA (power), G5 GNDA (power), G6 GND (power), G7 GND (power), G8 GND (power), G9 GND (power), G10 VDD (power), H5 GNDA (power), H6 GNDA (power), H7 GND (power), H8 GND (power), H9 VDD (power), H10 VDD (power), J1 VDDA (power), J2 VDDA (power), J3 VDDA (power), J4 GNDA (power), J5 GNDA (power), J6 GND (power), J7 GND (power), J8 GND (power), J9 VDD (power), K7 VDD (power), K8 VDD (power), K9 VDD (power)

## ADAS3022
designator IC?
16-Bit, 1 MSPS, 8-Channel Data Acquisition System
pins: 1 IN0 (in), 2 IN1 (in), 3 IN2 (in), 4 IN3 (in), 5 AUX+ (in), 6 IN4 (in), 7 IN5 (in), 8 IN6 (in), 9 IN7 (in), 10 COM (in), 11 ~{CS} (in), 12 DIN (in), 13 RESET (in), 14 NC, 15 PD (in), 16 SCK (in), 17 VIO (power), 18 SDO (out), 19 BUSY (out), 20 CNV (in), 21 DGND (power), 22 DGND (power), 23 AGND (power), 24 AGND (power), 25 DCAP (power), 26 ACAP (power), 27 DVDD (power), 28 AVDD (power), 29 NC, 30 NC, 31 RCAP (power), 32 REFIN (io), 33 REF1 (io), 34 REF2 (io), 35 RGND (power), 36 REFN (power), 37 REFN (power), 38 VSSH (power), 39 VDDH (power), 40 AUX- (in), 41 EP (power)

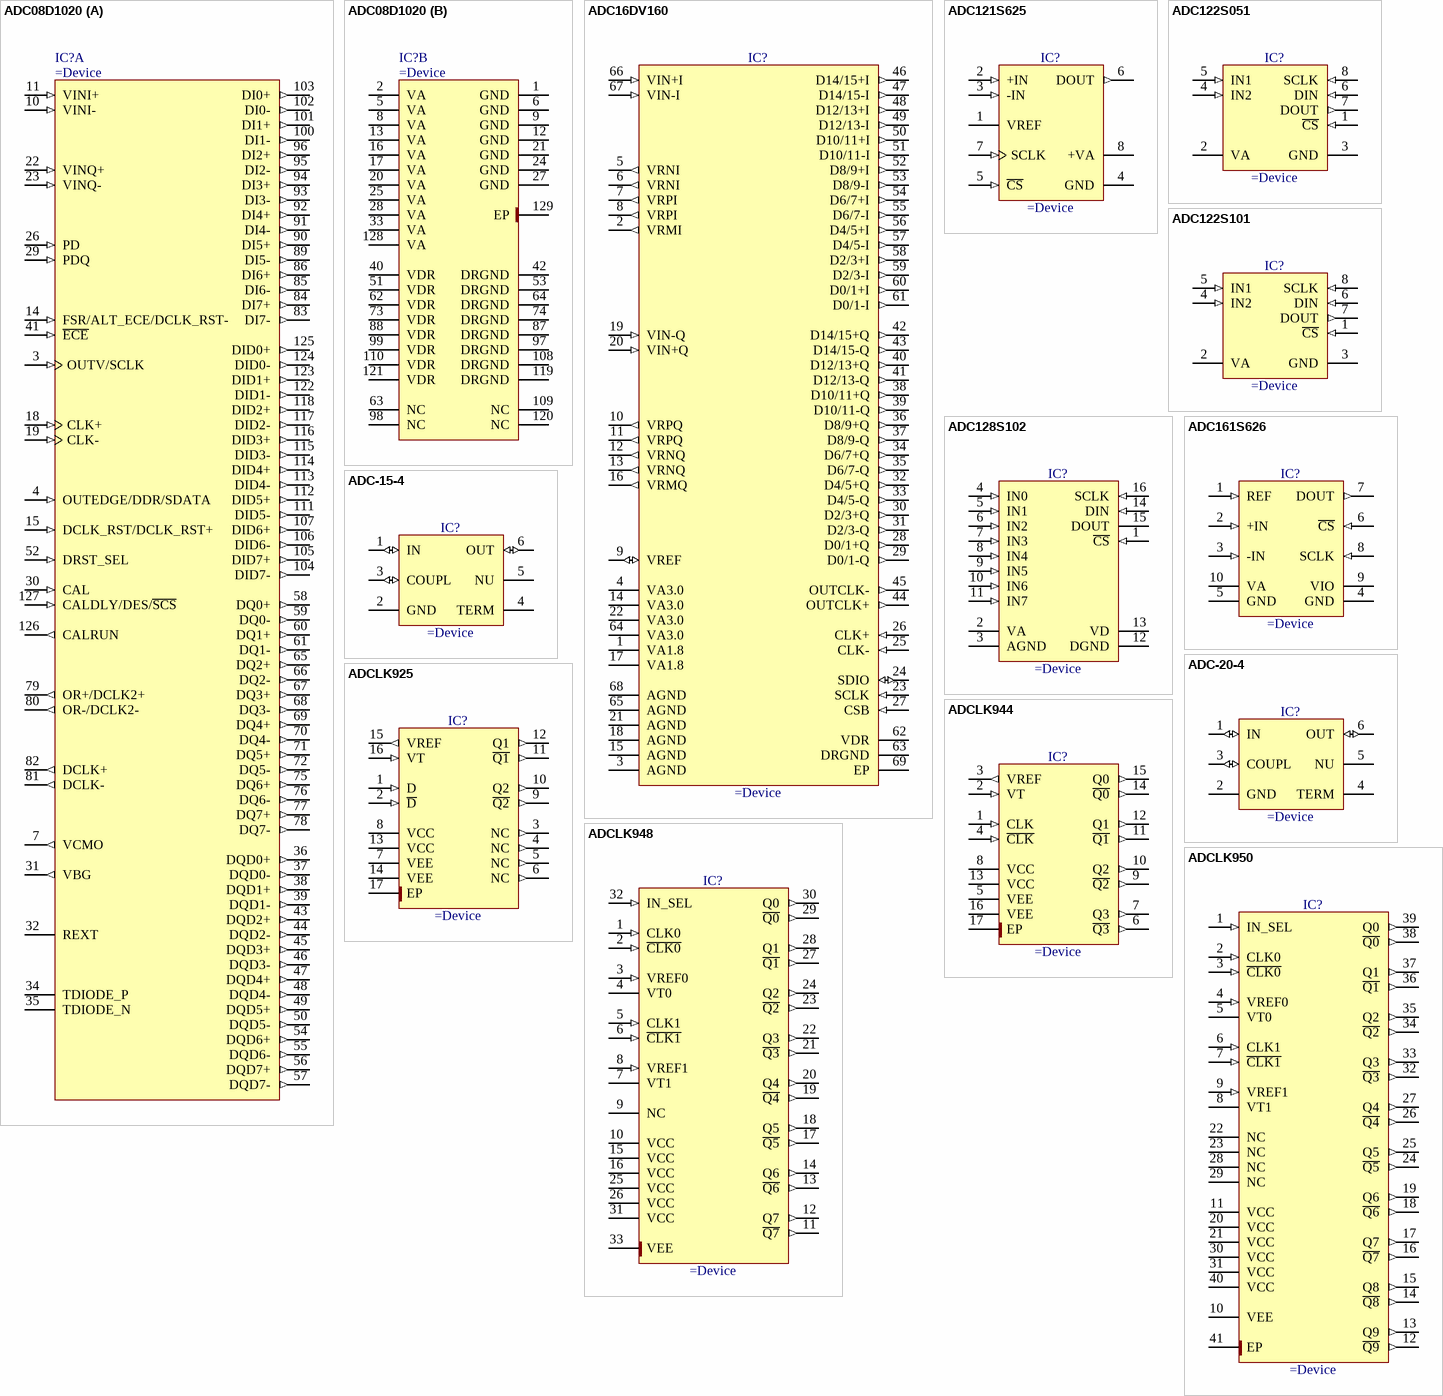
[diagram p12: symbols ADC08D1020 to ADCLK950]

## ADC08D1020
designator IC?
Low Power, 8-Bit, Dual 1.0 GSPS or Single 2.0 GSPS A/D Converter
part A pins: 3 OUTV/SCLK (in), 4 OUTEDGE/DDR/SDATA (in), 7 VCMO (out), 10 VINI- (in), 11 VINI+ (in), 14 FSR/ALT_ECE/DCLK_RST- (in), 15 DCLK_RST/DCLK_RST+ (in), 18 CLK+ (in), 19 CLK- (in), 22 VINQ+ (in), 23 VINQ- (in), 26 PD (in), 29 PDQ (in), 30 CAL (in), 31 VBG (out), 32 REXT, 34 TDIODE_P, 35 TDIODE_N, 36 DQD0+ (out), 37 DQD0- (out), 38 DQD1+ (out), 39 DQD1- (out), 41 ~{ECE} (in), 43 DQD2+ (out), 44 DQD2- (out), 45 DQD3+ (out), 46 DQD3- (out), 47 DQD4+ (out), 48 DQD4- (out), 49 DQD5+ (out), 50 DQD5- (out), 52 DRST_SEL (in), 54 DQD6+ (out), 55 DQD6- (out), 56 DQD7+ (out), 57 DQD7- (out), 58 DQ0+ (out), 59 DQ0- (out), 60 DQ1+ (out), 61 DQ1- (out), 65 DQ2+ (out), 66 DQ2- (out), 67 DQ3+ (out), 68 DQ3- (out), 69 DQ4+ (out), 70 DQ4- (out), 71 DQ5+ (out), 72 DQ5- (out), 75 DQ6+ (out), 76 DQ6- (out), 77 DQ7+ (out), 78 DQ7- (out), 79 OR+/DCLK2+ (out), 80 OR-/DCLK2- (out), 81 DCLK- (out), 82 DCLK+ (out), 83 DI7- (out), 84 DI7+ (out), 85 DI6- (out), 86 DI6+ (out), 89 DI5- (out), 90 DI5+ (out), 91 DI4- (out), 92 DI4+ (out), 93 DI3- (out), 94 DI3+ (out), 95 DI2- (out), 96 DI2+ (out), 100 DI1- (out), 101 DI1+ (out), 102 DI0- (out), 103 DI0+ (out), 104 DID7- (out), 105 DID7+ (out), 106 DID6- (out), 107 DID6+ (out), 111 DID5- (out), 112 DID5+ (out), 113 DID4- (out), 114 DID4+ (out), 115 DID3- (out), 116 DID3+ (out), 117 DID2- (out), 118 DID2+ (out), 122 DID1- (out), 123 DID1+ (out), 124 DID0- (out), 125 DID0+ (out), 126 CALRUN (out), 127 CALDLY/DES/~{SCS} (in)
part B pins: 1 GND (power), 2 VA (power), 5 VA (power), 6 GND (power), 8 VA (power), 9 GND (power), 12 GND (power), 13 VA (power), 16 VA (power), 17 VA (power), 20 VA (power), 21 GND (power), 24 GND (power), 25 VA (power), 27 GND (power), 28 VA (power), 33 VA (power), 40 VDR (power), 42 DRGND (power), 51 VDR (power), 53 DRGND (power), 62 VDR (power), 63 NC, 64 DRGND (power), 73 VDR (power), 74 DRGND (power), 87 DRGND (power), 88 VDR (power), 97 DRGND (power), 98 NC, 99 VDR (power), 108 DRGND (power), 109 NC, 110 VDR (power), 119 DRGND (power), 120 NC, 121 VDR (power), 128 VA (power), 129 EP (power) "Exposed Pad"

## ADC16DV160
designator IC?
Dual Channel, 16-Bit, 160 MSPS Analog-to-Digital Converter with DDR LVDS Outputs
pins: 1 VA1.8 (power), 2 VRMI (out), 3 AGND (power), 4 VA3.0 (power), 5 VRNI (out), 6 VRNI (out), 7 VRPI (out), 8 VRPI (out), 9 VREF (io), 10 VRPQ (out), 11 VRPQ (out), 12 VRNQ (out), 13 VRNQ (out), 14 VA3.0 (power), 15 AGND (power), 16 VRMQ (out), 17 VA1.8 (power), 18 AGND (power), 19 VIN-Q (in), 20 VIN+Q (in), 21 AGND (power), 22 VA3.0 (power), 23 SCLK (in), 24 SDIO (io), 25 CLK- (in), 26 CLK+ (in), 27 CSB (in), 28 D0/1+Q (out), 29 D0/1-Q (out), 30 D2/3+Q (out), 31 D2/3-Q (out), 32 D4/5+Q (out), 33 D4/5-Q (out), 34 D6/7+Q (out), 35 D6/7-Q (out), 36 D8/9+Q (out), 37 D8/9-Q (out), 38 D10/11+Q (out), 39 D10/11-Q (out), 40 D12/13+Q (out), 41 D12/13-Q (out), 42 D14/15+Q (out), 43 D14/15-Q (out), 44 OUTCLK+ (out), 45 OUTCLK- (out), 46 D14/15+I (out), 47 D14/15-I (out), 48 D12/13+I (out), 49 D12/13-I (out), 50 D10/11+I (out), 51 D10/11-I (out), 52 D8/9+I (out), 53 D8/9-I (out), 54 D6/7+I (out), 55 D6/7-I (out), 56 D4/5+I (out), 57 D4/5-I (out), 58 D2/3+I (out), 59 D2/3-I (out), 60 D0/1+I (out), 61 D0/1-I (out), 62 VDR (power), 63 DRGND (power), 64 VA3.0 (power), 65 AGND (power), 66 VIN+I (in), 67 VIN-I (in), 68 AGND (power), 69 EP (power)

## ADC121S625
designator IC?
12-Bit, 50kSPS to 200kSPS, Differential Input, Micro Power Sampling A/D Converter
pins: 1 VREF (power), 2 +IN (in), 3 -IN (in), 4 GND (power), 5 ~{CS} (in), 6 DOUT (out), 7 SCLK (in), 8 +VA (power)

## ADC122S051
designator IC?
2 Channel, 200 ksps to 500 ksps 12-Bit Analog-to-Digital Converter
pins: 1 ~{CS} (in), 2 VA (power), 3 GND (power), 4 IN2 (in), 5 IN1 (in), 6 DIN (in), 7 DOUT (out), 8 SCLK (in)

## ADC122S101
designator IC?
2 Channel, 500 ksps to 1 Msps 12-Bit Analog-to-Digital Converter
pins: 1 ~{CS} (in), 2 VA (power), 3 GND (power), 4 IN2 (in), 5 IN1 (in), 6 DIN (in), 7 DOUT (out), 8 SCLK (in)

## ADC128S102
designator IC?
8-Channel, 500-ksps to 1-Msps, 12-Bit Analog-to-Digital Converter
pins: 1 ~{CS} (in), 2 VA (power), 3 AGND (power), 4 IN0 (in), 5 IN1 (in), 6 IN2 (in), 7 IN3 (in), 8 IN4 (in), 9 IN5 (in), 10 IN6 (in), 11 IN7 (in), 12 DGND (power), 13 VD (power), 14 DIN (in), 15 DOUT (hiz), 16 SCLK (in)

## ADC161S626
designator IC?
16-Bit, 50 to 250 kSPS, Differential Input, MicroPower ADC
pins: 1 REF (in) "Voltage Reference", 2 +IN (in) "Non-Inverting Input", 3 -IN (in) "Inverting Input", 4 GND (power) "Ground", 5 GND (power) "Ground", 6 ~{CS} (in) "Chip Select Bar", 7 DOUT (out) "Serial Data Output", 8 SCLK (in) "Serial Clock", 9 VIO (power) "Digital Input/Output Power", 10 VA (power) "Analog Power"

## ADC-15-4
designator IC?
50 Ohm, 5 To 100MHz, Directional Coupler
pins: 1 IN (io), 2 GND (power), 3 COUPL (io), 4 TERM, 5 NU, 6 OUT (io)

## ADC-20-4
designator IC?
50 Ohm, 5 To 100MHz, Directional Coupler
pins: 1 IN (io), 2 GND (power), 3 COUPL (io), 4 TERM, 5 NU, 6 OUT (io)

## ADCLK925
designator IC?
2.5V to 3.3V, 2 Outputs,  Ultrafast SiGe ECL Clock/Data Buffers
pins: 1 D (in), 2 ~{D} (in), 3 NC (out), 4 NC (out), 5 NC (out), 6 NC (out), 7 VEE (power), 8 VCC (power), 9 ~{Q2} (out), 10 Q2 (out), 11 ~{Q1} (out), 12 Q1 (out), 13 VCC (power), 14 VEE (power), 15 VREF (out), 16 VT (in), 17 EP (power)

## ADCLK944
designator IC?
2.5V/3.3V, Four LVPECL Outputs, SiGe Clock Fanout Buffer
pins: 1 CLK (in), 2 VT (in), 3 VREF (out), 4 ~{CLK} (in), 5 VEE (power), 6 ~{Q3} (out), 7 Q3 (out), 8 VCC (power), 9 ~{Q2} (out), 10 Q2 (out), 11 ~{Q1} (out), 12 Q1 (out), 13 VCC (power), 14 ~{Q0} (out), 15 Q0 (out), 16 VEE (power), 17 EP (power)

## ADCLK948
designator IC?
Two Selectable Inputs, 8 LVPECL Outputs, SiGe Clock Fanout Buffer
pins: 1 CLK0 (in), 2 ~{CLK0} (in), 3 VREF0 (in), 4 VT0, 5 CLK1 (in), 6 ~{CLK1} (in), 7 VT1, 8 VREF1 (in), 9 NC, 10 VCC (power), 11 ~{Q7} (out), 12 Q7 (out), 13 ~{Q6} (out), 14 Q6 (out), 15 VCC (power), 16 VCC (power), 17 ~{Q5} (out), 18 Q5 (out), 19 ~{Q4} (out), 20 Q4 (out), 21 ~{Q3} (out), 22 Q3 (out), 23 ~{Q2} (out), 24 Q2 (out), 25 VCC (power), 26 VCC (power), 27 ~{Q1} (out), 28 Q1 (out), 29 ~{Q0} (out), 30 Q0 (out), 31 VCC (power), 32 IN_SEL (in), 33 VEE (power)

## ADCLK950
designator IC?
Two Selectable Inputs, 10 LVPECL Outputs, SiGe Clock Fanout Buffer
pins: 1 IN_SEL (in), 2 CLK0 (in), 3 ~{CLK0} (in), 4 VREF0 (in), 5 VT0, 6 CLK1 (in), 7 ~{CLK1} (in), 8 VT1, 9 VREF1 (in), 10 VEE (power), 11 VCC (power), 12 ~{Q9} (out), 13 Q9 (out), 14 ~{Q8} (out), 15 Q8 (out), 16 ~{Q7} (out), 17 Q7 (out), 18 ~{Q6} (out), 19 Q6 (out), 20 VCC (power), 21 VCC (power), 22 NC, 23 NC, 24 ~{Q5} (out), 25 Q5 (out), 26 ~{Q4} (out), 27 Q4 (out), 28 NC, 29 NC, 30 VCC (power), 31 VCC (power), 32 ~{Q3} (out), 33 Q3 (out), 34 ~{Q2} (out), 35 Q2 (out), 36 ~{Q1} (out), 37 Q1 (out), 38 ~{Q0} (out), 39 Q0 (out), 40 VCC (power), 41 EP (power)

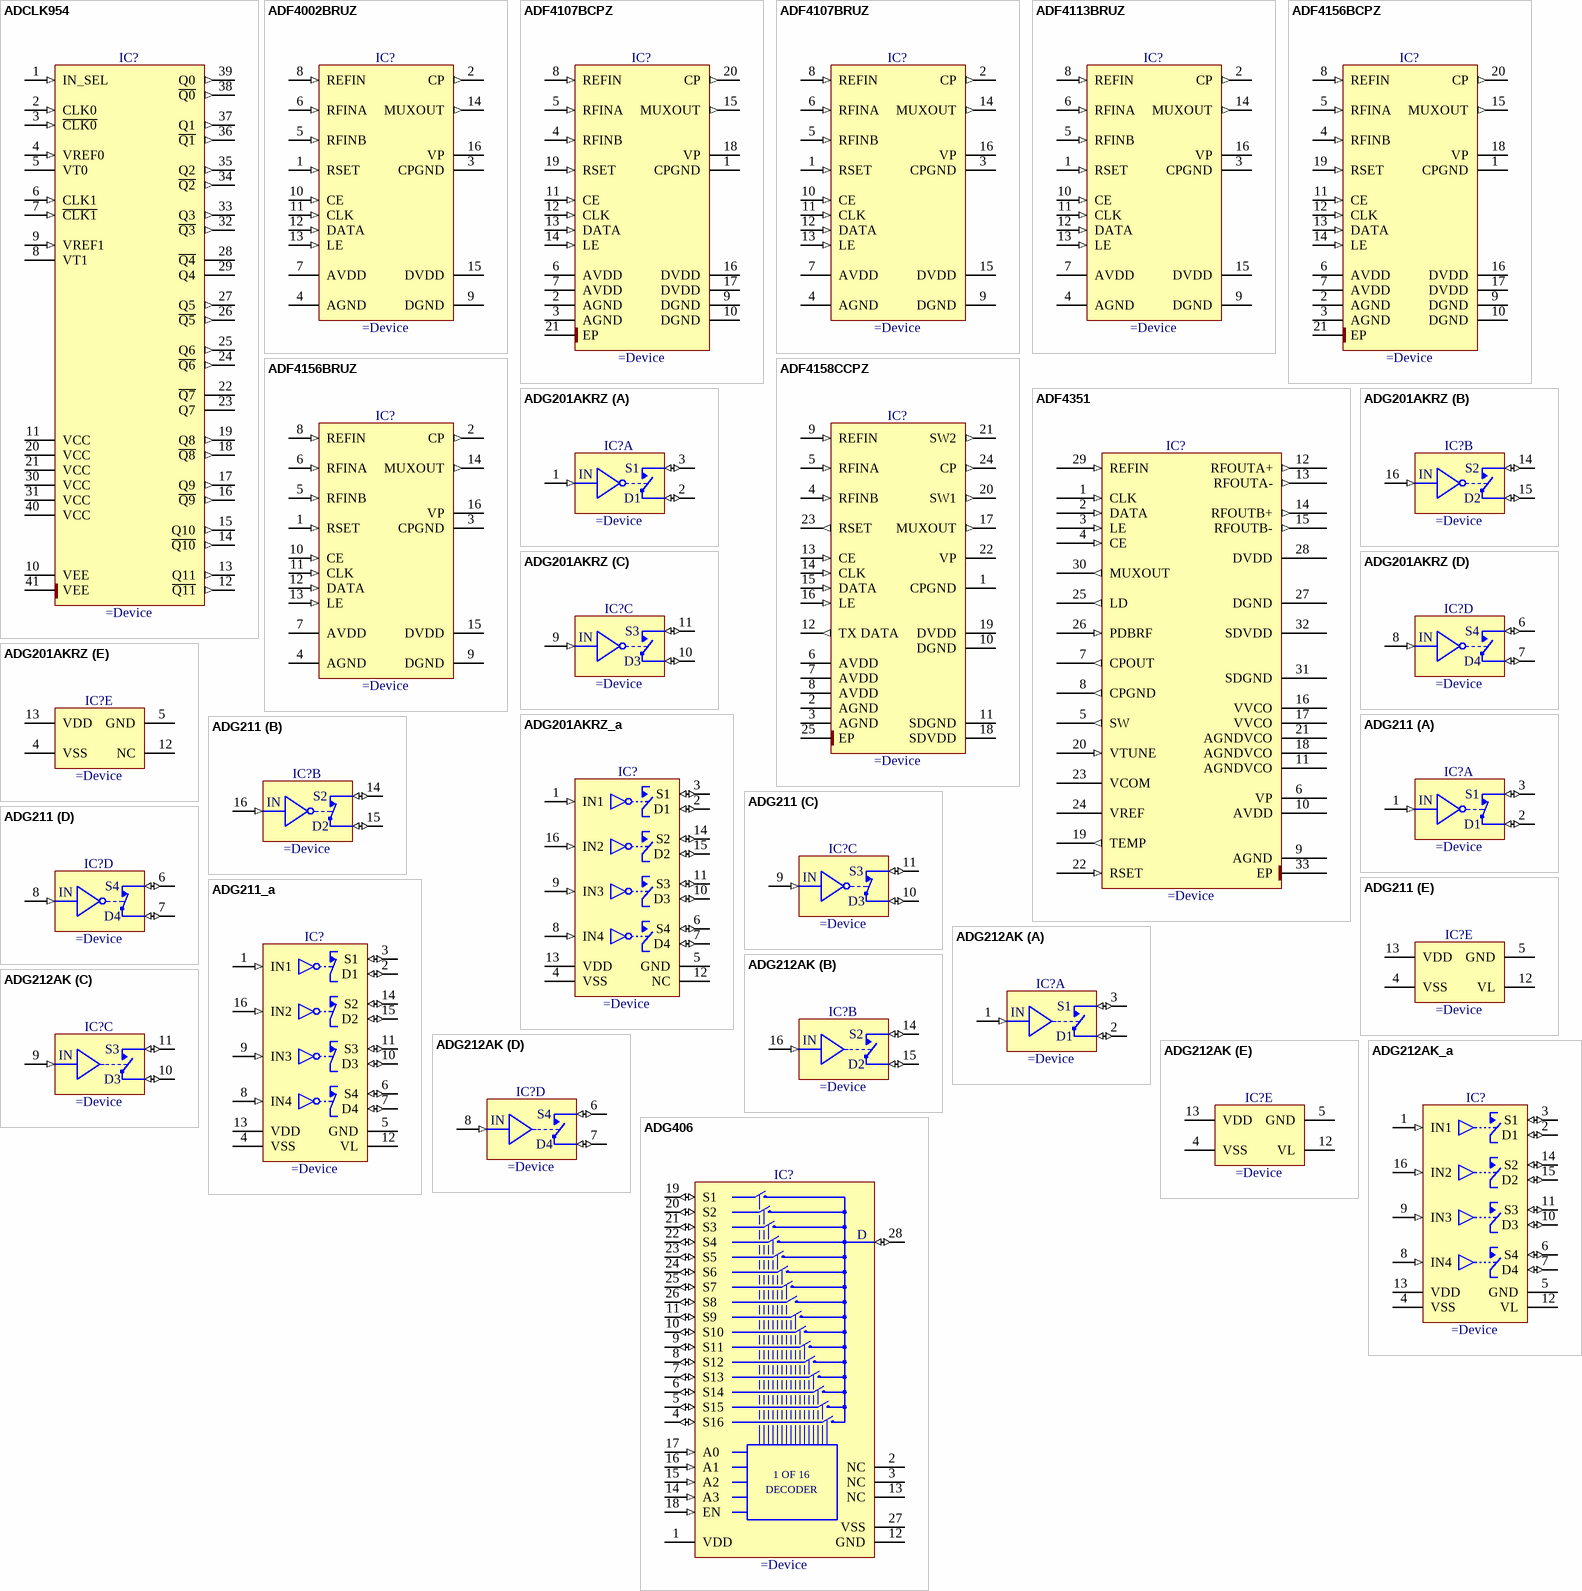
[diagram p13: symbols ADCLK954 to ADG406]

## ADCLK954
designator IC?
Two Selectable Inputs, 12 LVPECL Outputs, SiGe Clock Fanout Buffer
pins: 1 IN_SEL (in), 2 CLK0 (in), 3 ~{CLK0} (in), 4 VREF0 (in), 5 VT0, 6 CLK1 (in), 7 ~{CLK1} (in), 8 VT1, 9 VREF1 (in), 10 VEE (power), 11 VCC (power), 12 ~{Q11} (out), 13 Q11 (out), 14 ~{Q10} (out), 15 Q10 (out), 16 ~{Q9} (out), 17 Q9 (out), 18 ~{Q8} (out), 19 Q8 (out), 20 VCC (power), 21 VCC (power), 22 ~{Q7}, 23 Q7, 24 ~{Q6} (out), 25 Q6 (out), 26 ~{Q5} (out), 27 Q5 (out), 28 ~{Q4}, 29 Q4, 30 VCC (power), 31 VCC (power), 32 ~{Q3} (out), 33 Q3 (out), 34 ~{Q2} (out), 35 Q2 (out), 36 ~{Q1} (out), 37 Q1 (out), 38 ~{Q0} (out), 39 Q0 (out), 40 VCC (power), 41 VEE (power)

## ADF4002BRUZ
designator IC?
Phase Detector/Frequency Synthesizer
pins: 1 RSET (in), 2 CP (out), 3 CPGND (power), 4 AGND (power), 5 RFINB (in), 6 RFINA (in), 7 AVDD (power), 8 REFIN (in), 9 DGND (power), 10 CE (in), 11 CLK (in), 12 DATA (in), 13 LE (in), 14 MUXOUT (out), 15 DVDD (power), 16 VP (power)

## ADF4107BCPZ
designator IC?
PLL Frequency Synthesizer
pins: 1 CPGND (power), 2 AGND (power), 3 AGND (power), 4 RFINB (in), 5 RFINA (in), 6 AVDD (power), 7 AVDD (power), 8 REFIN (in), 9 DGND (power), 10 DGND (power), 11 CE (in), 12 CLK (in), 13 DATA (in), 14 LE (in), 15 MUXOUT (out), 16 DVDD (power), 17 DVDD (power), 18 VP (power), 19 RSET (in), 20 CP (out), 21 EP (power)

## ADF4107BRUZ
designator IC?
PLL Frequency Synthesizer
pins: 1 RSET (in), 2 CP (out), 3 CPGND (power), 4 AGND (power), 5 RFINB (in), 6 RFINA (in), 7 AVDD (power), 8 REFIN (in), 9 DGND (power), 10 CE (in), 11 CLK (in), 12 DATA (in), 13 LE (in), 14 MUXOUT (out), 15 DVDD (power), 16 VP (power)

## ADF4113BRUZ
designator IC?
RF PLL Frequency Synthesizer
pins: 1 RSET (in), 2 CP (out), 3 CPGND (power), 4 AGND (power), 5 RFINB (in), 6 RFINA (in), 7 AVDD (power), 8 REFIN (in), 9 DGND (power), 10 CE (in), 11 CLK (in), 12 DATA (in), 13 LE (in), 14 MUXOUT (out), 15 DVDD (power), 16 VP (power)

## ADF4156BCPZ
designator IC?
6.2 GHz Fractional-N Frequency Synthesizer
pins: 1 CPGND (power), 2 AGND (power), 3 AGND (power), 4 RFINB (in), 5 RFINA (in), 6 AVDD (power), 7 AVDD (power), 8 REFIN (in), 9 DGND (power), 10 DGND (power), 11 CE (in), 12 CLK (in), 13 DATA (in), 14 LE (in), 15 MUXOUT (out), 16 DVDD (power), 17 DVDD (power), 18 VP (power), 19 RSET (in), 20 CP (out), 21 EP (power)

## ADF4156BRUZ
designator IC?
6.2 GHz Fractional-N Frequency Synthesizer
pins: 1 RSET (in), 2 CP (out), 3 CPGND (power), 4 AGND (power), 5 RFINB (in), 6 RFINA (in), 7 AVDD (power), 8 REFIN (in), 9 DGND (power), 10 CE (in), 11 CLK (in), 12 DATA (in), 13 LE (in), 14 MUXOUT (out), 15 DVDD (power), 16 VP (power)

## ADF4158CCPZ
designator IC?
Direct Modulation/Waveform Generating, 6.1 GHz Fractional-N Frequency Synthesizer
pins: 1 CPGND (power), 2 AGND (power), 3 AGND (power), 4 RFINB (in), 5 RFINA (in), 6 AVDD (power), 7 AVDD (power), 8 AVDD (power), 9 REFIN (in), 10 DGND (power), 11 SDGND (power), 12 TX DATA (out), 13 CE (in), 14 CLK (in), 15 DATA (in), 16 LE (in), 17 MUXOUT (out), 18 SDVDD (power), 19 DVDD (power), 20 SW1 (out), 21 SW2 (out), 22 VP (power), 23 RSET (out), 24 CP (out), 25 EP (power)

## ADF4351
designator IC?
Wideband Synthesizer with Integrated VCO
pins: 1 CLK (in), 2 DATA (in), 3 LE (in), 4 CE (in), 5 SW (out), 6 VP (power), 7 CPOUT (out), 8 CPGND (out), 9 AGND (power), 10 AVDD (power), 11 AGNDVCO (power), 12 RFOUTA+ (out), 13 RFOUTA- (out), 14 RFOUTB+ (out), 15 RFOUTB- (out), 16 VVCO (power), 17 VVCO (power), 18 AGNDVCO (power), 19 TEMP (out), 20 VTUNE (in), 21 AGNDVCO (power), 22 RSET (in), 23 VCOM, 24 VREF, 25 LD (out), 26 PDBRF (in), 27 DGND (power), 28 DVDD (power), 29 REFIN (in), 30 MUXOUT (out), 31 SDGND (power), 32 SDVDD (power), 33 EP (power)

## ADG201AKRZ
designator IC?
LC2MOS Quad Normaly Open SPST Switches
part A pins: 1 IN (in), 2 D (io), 3 S (io)
part B pins: 14 S (io), 15 D (io), 16 IN (in)
part C pins: 9 IN (in), 10 D (io), 11 S (io)
part D pins: 6 S (io), 7 D (io), 8 IN (in)
part E pins: 4 VSS (power), 5 GND (power), 12 NC, 13 VDD (power)
part A text: S1; D1
part B text: S2; D2
part C text: S3; D3
part D text: S4; D4

## ADG201AKRZ_a
designator IC?
LC2MOS Quad Normaly Open SPST Switches
pins: 1 IN1 (in), 2 D1 (io), 3 S1 (io), 4 VSS (power), 5 GND (power), 6 S4 (io), 7 D4 (io), 8 IN4 (in), 9 IN3 (in), 10 D3 (io), 11 S3 (io), 12 NC, 13 VDD (power), 14 S2 (io), 15 D2 (io), 16 IN2 (in)

## ADG211
designator IC?
LC2MOS Quad SPST Switches
part A pins: 1 IN (in), 2 D (io), 3 S (io)
part B pins: 14 S (io), 15 D (io), 16 IN (in)
part C pins: 9 IN (in), 10 D (io), 11 S (io)
part D pins: 6 S (io), 7 D (io), 8 IN (in)
part E pins: 4 VSS (power), 5 GND (power), 12 VL (power), 13 VDD (power)
part A text: S1; D1
part B text: S2; D2
part C text: S3; D3
part D text: S4; D4

## ADG211_a
designator IC?
LC2MOS Quad SPST Switches
pins: 1 IN1 (in), 2 D1 (io), 3 S1 (io), 4 VSS (power), 5 GND (power), 6 S4 (io), 7 D4 (io), 8 IN4 (in), 9 IN3 (in), 10 D3 (io), 11 S3 (io), 12 VL (power), 13 VDD (power), 14 S2 (io), 15 D2 (io), 16 IN2 (in)

## ADG212AK
designator IC?
LC2MOS Quad Normaly Close SPST Switches
part A pins: 1 IN (in), 2 D (io), 3 S (io)
part B pins: 14 S (io), 15 D (io), 16 IN (in)
part C pins: 9 IN (in), 10 D (io), 11 S (io)
part D pins: 6 S (io), 7 D (io), 8 IN (in)
part E pins: 4 VSS (power), 5 GND (power), 12 VL (power), 13 VDD (power)
part A text: S1; D1
part B text: S2; D2
part C text: S3; D3
part D text: S4; D4

## ADG212AK_a
designator IC?
LC2MOS Quad Normaly Close SPST Switches
pins: 1 IN1 (in), 2 D1 (io), 3 S1 (io), 4 VSS (power), 5 GND (power), 6 S4 (io), 7 D4 (io), 8 IN4 (in), 9 IN3 (in), 10 D3 (io), 11 S3 (io), 12 VL (power), 13 VDD (power), 14 S2 (io), 15 D2 (io), 16 IN2 (in)

## ADG406
designator IC?
LC2MOS 16-Channel High Performance Analog Multiplexer
pins: 1 VDD (power) "Most Positive Power Supply Potential.", 2 NC "No Connect.", 3 NC "No Connect.", 4 S16 (io) "Source Terminal 16 Can be an input or an output.", 5 S15 (io) "Source Terminal 15 Can be an input or an output.", 6 S14 (io) "Source Terminal 14 Can be an input or an output.", 7 S13 (io) "Source Terminal 13 Can be an input or an output.", 8 S12 (io) "Source Terminal 12 Can be an input or an output.", 9 S11 (io) "Source Terminal 11 Can be an input or an output.", 10 S10 (io) "Source Terminal 10 Can be an input or an output.", 11 S9 (io) "Source Terminal 9 Can be an input or an output.", 12 GND (power) "Ground (0 V) Reference.", 13 NC "No Connect.", 14 A3 (in) "Logic Control Input.", 15 A2 (in) "Logic Control Input.", 16 A1 (in) "Logic Control Input.", 17 A0 (in) "Logic Control Input.", 18 EN (in) "Active High Digital Input. When this pin is low, the device is disabled and all switches are turned off. When this pin  is high, the Ax logic inputs determine which switch is turned on.", 19 S1 (io) "Source Terminal 1 Can be an input or an output.", 20 S2 (io) "Source Terminal 2 Can be an input or an output.", 21 S3 (io) "Source Terminal 3 Can be an input or an output.", 22 S4 (io) "Source Terminal 4 Can be an input or an output.", 23 S5 (io) "Source Terminal 5 Can be an input or an output.", 24 S6 (io) "Source Terminal 6 Can be an input or an output.", 25 S7 (io) "Source Terminal 7 Can be an input or an output.", 26 S8 (io) "Source Terminal 8 Can be an input or an output.", 27 VSS (power) "Most Negative Power Supply Potential. In single-supply applications, this pin can be connected to ground.", 28 D (io) "Drain Terminal. This pin can be an input or an output."
text: 1 OF 16; DECODER

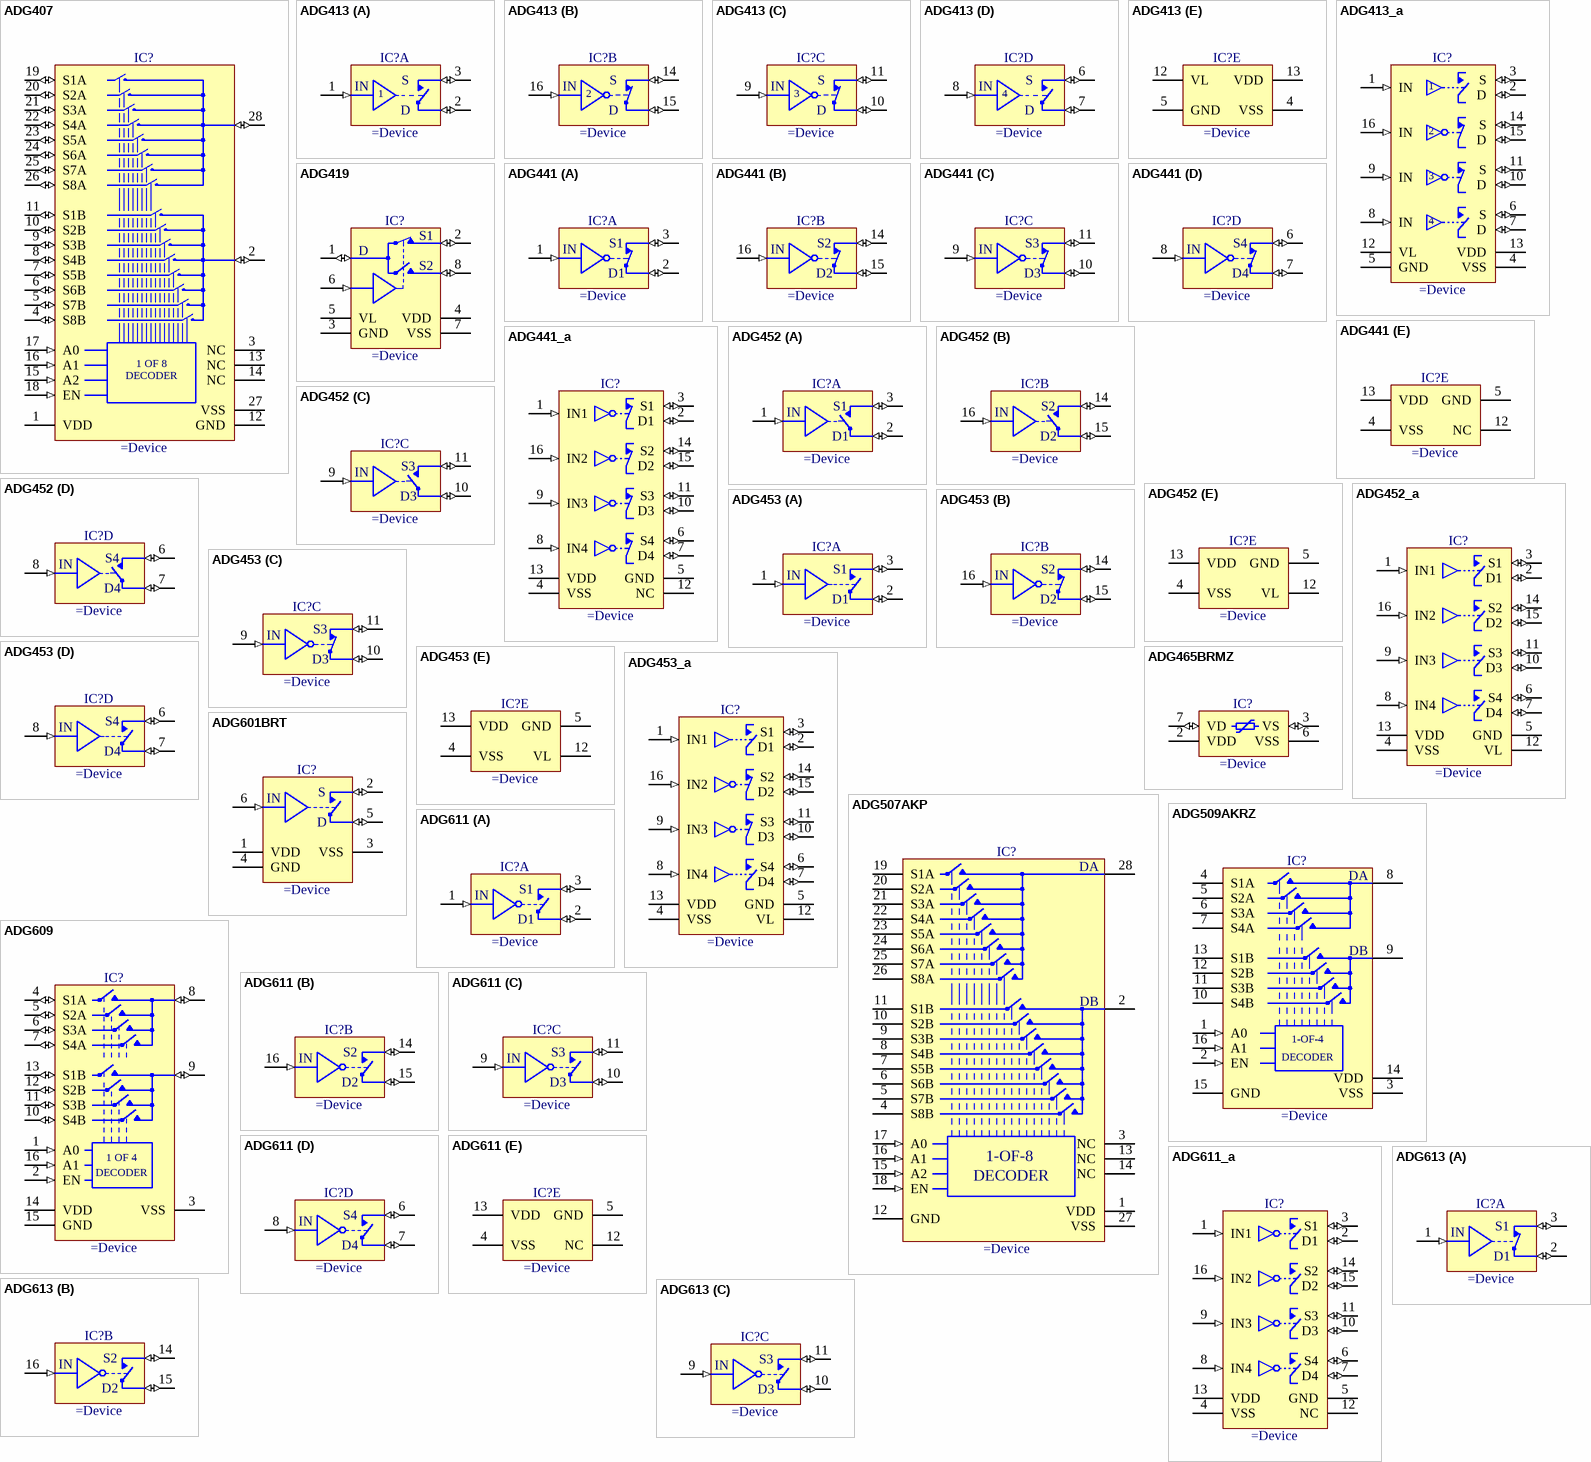
[diagram p14: symbols ADG407 to ADG613]

## ADG407
designator IC?
LC2MOS ± 15 V, Dual 8 Channel, High Performance Analog Multiplexer
pins: 1 VDD (power), 2 DB (io), 3 NC, 4 S8B (io), 5 S7B (io), 6 S6B (io), 7 S5B (io), 8 S4B (io), 9 S3B (io), 10 S2B (io), 11 S1B (io), 12 GND (power), 13 NC, 14 NC, 15 A2 (in), 16 A1 (in), 17 A0 (in), 18 EN (in), 19 S1A (io), 20 S2A (io), 21 S3A (io), 22 S4A (io), 23 S5A (io), 24 S6A (io), 25 S7A (io), 26 S8A (io), 27 VSS (power), 28 DA (io)
text: 1 OF 8; DECODER

## ADG413
designator IC?
Precision Quad SPST Switches (2 Normally Open + 2 Normally Close)
part A pins: 1 IN (in), 2 D (io), 3 S (io)
part B pins: 14 S (io), 15 D (io), 16 IN (in)
part C pins: 9 IN (in), 10 D3 (io), 11 S3 (io)
part D pins: 6 S4 (io), 7 D4 (io), 8 IN (in)
part E pins: 4 VSS (power), 5 GND (power), 12 VL (power), 13 VDD (power)

## ADG413_a
designator IC?
Precision Quad SPST Switches (2 Normally Open + 2 Normally Close)
pins: 1 IN (in), 2 D (io), 3 S (io), 4 VSS (power), 5 GND (power), 6 S (io), 7 D (io), 8 IN (in), 9 IN (in), 10 D (io), 11 S (io), 12 VL (power), 13 VDD (power), 14 S (io), 15 D (io), 16 IN (in)

## ADG419
designator IC?
LC2MOS Precision SPDT Analog Switches
pins: 1 D (io), 2 S1 (io), 3 GND (power), 4 VDD (power), 5 VL (power), 6 IN (in), 7 VSS (power), 8 S2 (io)

## ADG441
designator IC?
LC2MOS Quad SPST Switches
part A pins: 1 IN (in), 2 D (io), 3 S (io)
part B pins: 14 S (io), 15 D (io), 16 IN (in)
part C pins: 9 IN (in), 10 D (io), 11 S (io)
part D pins: 6 S (io), 7 D (io), 8 IN (in)
part E pins: 4 VSS (power), 5 GND (power), 12 NC, 13 VDD (power)
part A text: S1; D1
part B text: S2; D2
part C text: S3; D3
part D text: S4; D4

## ADG441_a
designator IC?
LC2MOS Quad SPST Switches
pins: 1 IN1 (in), 2 D1 (io), 3 S1 (io), 4 VSS (power), 5 GND (power), 6 S4 (io), 7 D4 (io), 8 IN4 (in), 9 IN3 (in), 10 D3 (io), 11 S3 (io), 12 NC, 13 VDD (power), 14 S2 (io), 15 D2 (io), 16 IN2 (in)

## ADG452
designator IC?
Quad SPST Switches
part A pins: 1 IN (in), 2 D (io), 3 S (io)
part B pins: 14 S (io), 15 D (io), 16 IN (in)
part C pins: 9 IN (in), 10 D (io), 11 S (io)
part D pins: 6 S (io), 7 D (io), 8 IN (in)
part E pins: 4 VSS (power), 5 GND (power), 12 VL (power), 13 VDD (power)
part A text: S1; D1
part B text: S2; D2
part C text: S3; D3
part D text: S4; D4

## ADG452_a
designator IC?
Quad SPST Switches
pins: 1 IN1 (in), 2 D1 (io), 3 S1 (io), 4 VSS (power), 5 GND (power), 6 S4 (io), 7 D4 (io), 8 IN4 (in), 9 IN3 (in), 10 D3 (io), 11 S3 (io), 12 VL (power), 13 VDD (power), 14 S2 (io), 15 D2 (io), 16 IN2 (in)

## ADG453
designator IC?
Quad SPST Switches
part A pins: 1 IN (in), 2 D (io), 3 S (io)
part B pins: 14 S (io), 15 D (io), 16 IN (in)
part C pins: 9 IN (in), 10 D (io), 11 S (io)
part D pins: 6 S (io), 7 D (io), 8 IN (in)
part E pins: 4 VSS (power), 5 GND (power), 12 VL (power), 13 VDD (power)
part A text: S1; D1
part B text: S2; D2
part C text: S3; D3
part D text: S4; D4

## ADG453_a
designator IC?
Quad SPST Switches
pins: 1 IN1 (in), 2 D1 (io), 3 S1 (io), 4 VSS (power), 5 GND (power), 6 S4 (io), 7 D4 (io), 8 IN4 (in), 9 IN3 (in), 10 D3 (io), 11 S3 (io), 12 VL (power), 13 VDD (power), 14 S2 (io), 15 D2 (io), 16 IN2 (in)

## ADG465BRMZ
designator IC?
Single Channel Protector
pins: 2 VDD (power), 3 VS (io), 6 VSS (power), 7 VD (io)

## ADG507AKP
designator IC?
CMOS  8-/16-Channel Analog Multiplexers
pins: 1 VDD (power) "Most Positive Power Supply Potential.", 2 DB "Drain Terminal B. Can be an input or an output.", 3 NC "Most Negative Power Supply Potential in Dual Supplies. In single-supply applications, it can be connected to ground.", 4 S8B "Source Terminal 4B. Can be an input or an output.", 5 S7B "Source Terminal 3B. Can be an input or an output.", 6 S6B "Source Terminal 2B. Can be an input or an output.", 7 S5B "Source Terminal 1B. Can be an input or an output.", 8 S4B "Source Terminal 4B. Can be an input or an output.", 9 S3B "Source Terminal 3B. Can be an input or an output.", 10 S2B "Source Terminal 2B. Can be an input or an output.", 11 S1B "Source Terminal 1B. Can be an input or an output.", 12 GND (power) "Ground (0 V) Reference.", 13 NC "Most Negative Power Supply Potential in Dual Supplies. In single-supply applications, it can be connected to ground.", 14 NC "Most Negative Power Supply Potential in Dual Supplies. In single-supply applications, it can be connected to ground.", 15 A2 (in) "Logic Control Input.", 16 A1 (in) "Logic Control Input.", 17 A0 (in) "Logic Control Input.", 18 EN (in) "Active High Digital Input. When low, the device is disabled and all switches are off. When high, Ax logic inputs determine on switches.", 19 S1A "Source Terminal 1A. Can be an input or an output.", 20 S2A "Source Terminal 2A. Can be an input or an output.", 21 S3A "Source Terminal 3A. Can be an input or an output.", 22 S4A "Source Terminal 4A. Can be an input or an output.", 23 S5A "Source Terminal 4A. Can be an input or an output.", 24 S6A "Source Terminal 4A. Can be an input or an output.", 25 S7A "Source Terminal 4A. Can be an input or an output.", 26 S8A "Source Terminal 4A. Can be an input or an output.", 27 VSS (power) "Most Negative Power Supply Potential in Dual Supplies. In single-supply applications, it can be connected to ground.", 28 DA "Drain Terminal A. Can be an input or an output."
text: 1-OF-8; DECODER

## ADG509AKRZ
designator IC?
CMOS Dual 4-Channel Analog Multiplexer
pins: 1 A0 (in) "Logic Control Input.", 2 EN (in) "Active High Digital Input. When low, the device is disabled and all switches are off. When high, Ax logic inputs determine on switches.", 3 VSS (power) "Most Negative Power Supply Potential in Dual Supplies. In single-supply applications, it can be connected to ground.", 4 S1A "Source Terminal 1A. Can be an input or an output.", 5 S2A "Source Terminal 2A. Can be an input or an output.", 6 S3A "Source Terminal 3A. Can be an input or an output.", 7 S4A "Source Terminal 4A. Can be an input or an output.", 8 DA "Drain Terminal A. Can be an input or an output.", 9 DB "Drain Terminal B. Can be an input or an output.", 10 S4B "Source Terminal 4B. Can be an input or an output.", 11 S3B "Source Terminal 3B. Can be an input or an output.", 12 S2B "Source Terminal 2B. Can be an input or an output.", 13 S1B "Source Terminal 1B. Can be an input or an output.", 14 VDD (power) "Most Positive Power Supply Potential.", 15 GND (power) "Ground (0 V) Reference.", 16 A1 (in) "Logic Control Input."
text: 1-OF-4; DECODER

## ADG601BRT
designator IC?
2 Ohms, CMOS, ±5 V/+5 V SPST Switches (Normally Open)
pins: 1 VDD (power), 2 S (io), 3 VSS (power), 4 GND (power), 5 D (io), 6 IN (in)

## ADG609
designator IC?
LC2MOS, 3V/5V, 4 Channel High Performance Analog Multiplexer
pins: 1 A0 (in), 2 EN (in), 3 VSS (power), 4 S1A (io), 5 S2A (io), 6 S3A (io), 7 S4A (io), 8 DA (io), 9 DB (io), 10 S4B (io), 11 S3B (io), 12 S2B (io), 13 S1B (io), 14 VDD (power), 15 GND (power), 16 A1 (in)
text: 1 OF 4; DECODER

## ADG611
designator IC?
1pC Charge Injection, 100pA Leakage, CMOS, ±5V/+5V/+3V, Quad SPST Switches
part A pins: 1 IN (in), 2 D (io), 3 S (io)
part B pins: 14 S (io), 15 D (io), 16 IN (in)
part C pins: 9 IN (in), 10 D (io), 11 S (io)
part D pins: 6 S (io), 7 D (io), 8 IN (in)
part E pins: 4 VSS (power), 5 GND (power), 12 NC, 13 VDD (power)
part A text: S1; D1
part B text: S2; D2
part C text: S3; D3
part D text: S4; D4

## ADG611_a
designator IC?
1pC Charge Injection, 100pA Leakage, CMOS, ±5V/+5V/+3V, Quad SPST Switches
pins: 1 IN1 (in), 2 D1 (io), 3 S1 (io), 4 VSS (power), 5 GND (power), 6 S4 (io), 7 D4 (io), 8 IN4 (in), 9 IN3 (in), 10 D3 (io), 11 S3 (io), 12 NC, 13 VDD (power), 14 S2 (io), 15 D2 (io), 16 IN2 (in)

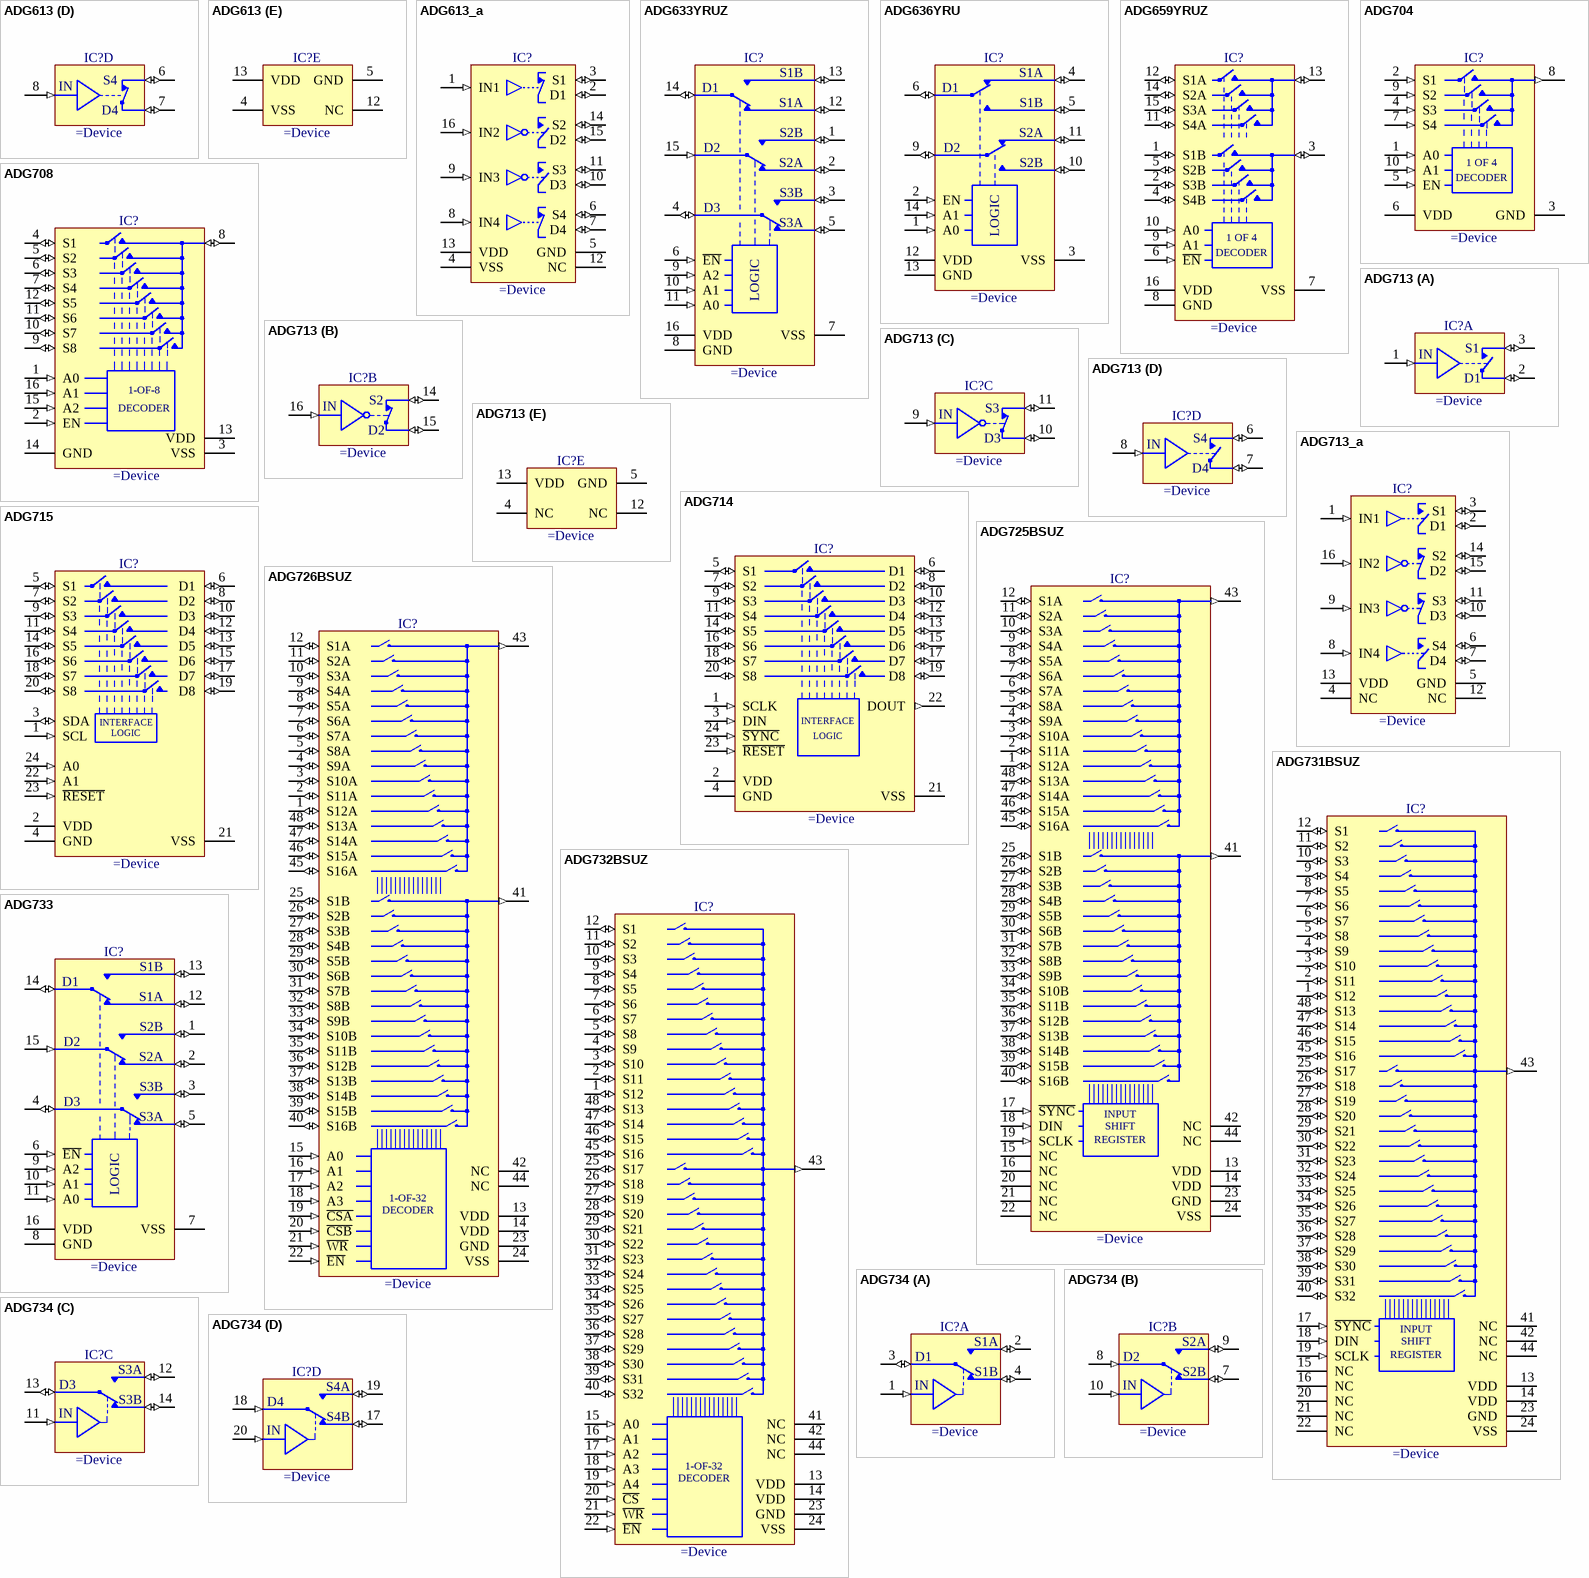
[diagram p15: symbols ADG613 to ADG734]

## ADG613
designator IC?
1pC Charge Injection, 100pA Leakage, CMOS, ±5V/+5V/+3V, Quad SPST Switches
part A pins: 1 IN (in), 2 D (io), 3 S (io)
part B pins: 14 S (io), 15 D (io), 16 IN (in)
part C pins: 9 IN (in), 10 D (io), 11 S (io)
part D pins: 6 S (io), 7 D (io), 8 IN (in)
part E pins: 4 VSS (power), 5 GND (power), 12 NC, 13 VDD (power)
part A text: S1; D1
part B text: S2; D2
part C text: S3; D3
part D text: S4; D4

## ADG613_a
designator IC?
1pC Charge Injection, 100pA Leakage, CMOS, ±5V/+5V/+3V, Quad SPST Switches
pins: 1 IN1 (in), 2 D1 (io), 3 S1 (io), 4 VSS (power), 5 GND (power), 6 S4 (io), 7 D4 (io), 8 IN4 (in), 9 IN3 (in), 10 D3 (io), 11 S3 (io), 12 NC, 13 VDD (power), 14 S2 (io), 15 D2 (io), 16 IN2 (in)

## ADG633YRUZ
designator IC?
CMOS, ±5V/+5V/+3V, Triple SPDT Switch
pins: 1 S2B (io), 2 S2A (io), 3 S3B (io), 4 D3 (io), 5 S3A (io), 6 ~{EN} (in), 7 VSS (power), 8 GND (power), 9 A2 (in), 10 A1 (in), 11 A0 (in), 12 S1A (io), 13 S1B (io), 14 D1 (io), 15 D2 (in), 16 VDD (power)
text: LOGIC

## ADG636YRU
designator IC?
1pC Charge Injection, 100pA Leakage, CMOS, ±5V/+5V/+3V Dual SPDT Switch
pins: 1 A0 (in), 2 EN (in), 3 VSS (power), 4 S1A (io), 5 S1B (io), 6 D1 (io), 9 D2 (io), 10 S2B (io), 11 S2A (io), 12 VDD (power), 13 GND (power), 14 A1 (in)
text: LOGIC

## ADG659YRUZ
designator IC?
+3V/+5V/±5V CMOS 4-Channel Analog Multiplexer
pins: 1 S1B (io), 2 S3B (io), 3 DB (io), 4 S4B (io), 5 S2B (io), 6 ~{EN} (in), 7 VSS (power), 8 GND (power), 9 A1 (in), 10 A0 (in), 11 S4A (io), 12 S1A (io), 13 DA (io), 14 S2A (io), 15 S3A (io), 16 VDD (power)
text: 1 OF 4; DECODER

## ADG704
designator IC?
CMOS, Low Voltage 2.5 Ohm, 4-Channel Analog Multiplexer
pins: 1 A0 (in), 2 S1 (in), 3 GND (power), 4 S3 (in), 5 EN (in), 6 VDD (power), 7 S4 (in), 8 D (out), 9 S2 (in), 10 A1 (in)
text: 1 OF 4; DECODER